# Altium integrated library Motorola Microcontroller 8-Bit.IntLib: 909 symbols (part 23 of 31)
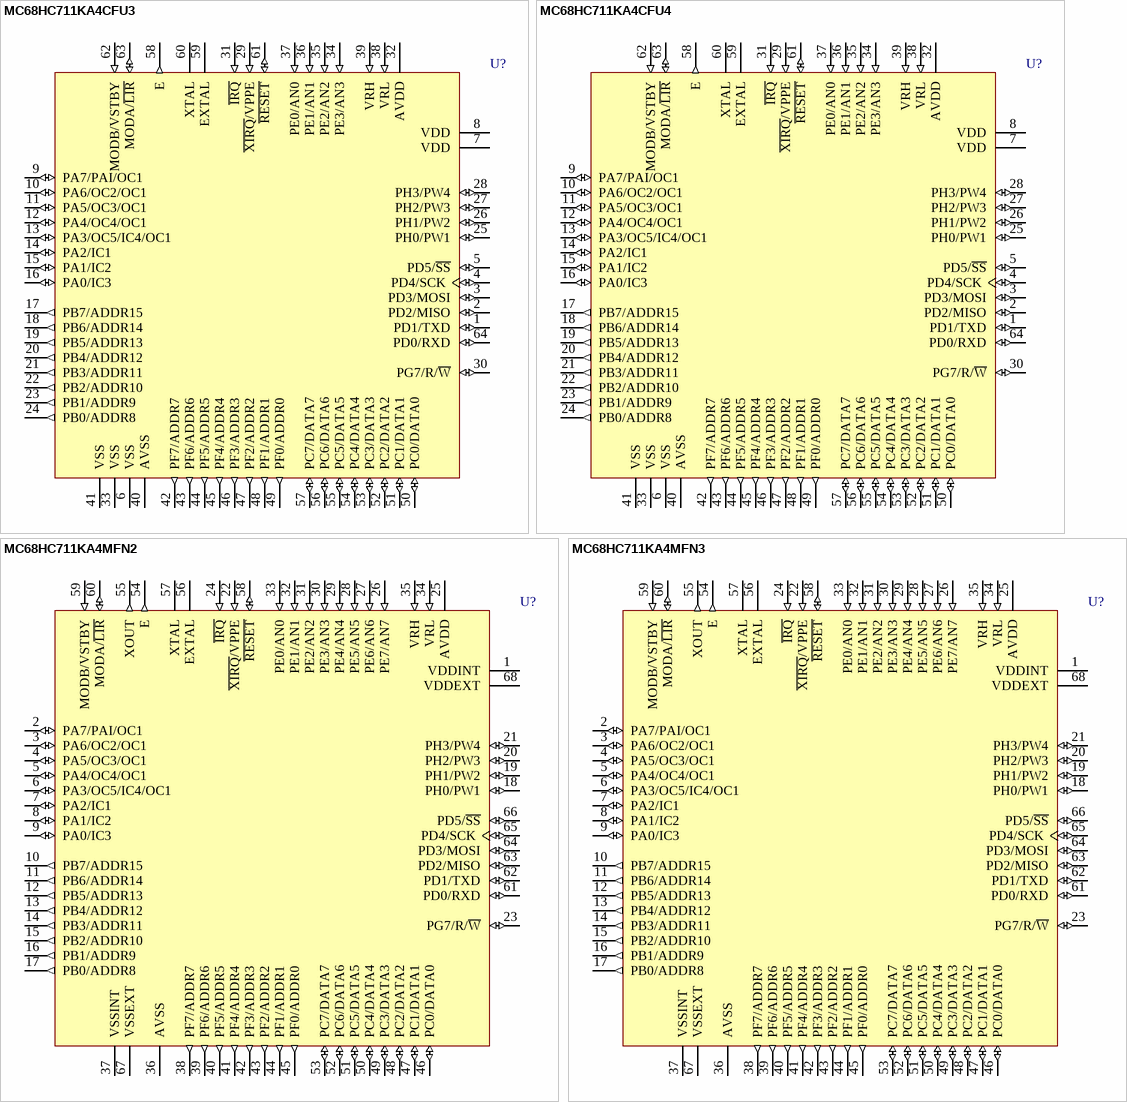
[diagram p135: symbols MC68HC711KA4CFU3 to MC68HC711KA4MFN3]

## MC68HC711KA4CFU4
designator U?
8-Bit Microcontroller; Published: 17-Jan-2003; LatestRevisionDate: 13-Apr-2006; LatestRevisionNote: IPC-7351 Footprint Added.; DatasheetVersion: 1996; PackageVersion: rev4, Jul-2002; PackageReference: 840C; Publisher: Altium Limited; PackageDescription: 64-Pin Quad Flat Pack 0.8 mm Pitch; ComponentLink1Description: Manufacturer Link; ComponentLink1URL: http://www.freescale.com/
footprint 840C_N (QFP, 64-Leads, Body 14x14mm, Pitch 0.8mm, IPC Medium Density)
footprint 840C_L (QFP, 64-Leads, Body 14x14mm, Pitch 0.8mm, IPC High Density)
footprint 840C_M (QFP, 64-Leads, Body 14x14mm, Pitch 0.8mm, IPC Low Density)
3D model MC68HC711-840C (64-Pin Quad Flat Pack 0.8 mm Pitch)
pins: 1 PD1/TXD (io), 2 PD2/MISO (io), 3 PD3/MOSI (io), 4 PD4/SCK (io), 5 PD5/~{SS} (io), 6 VSS (power), 7 VDD (power), 8 VDD (power), 9 PA7/PAI/OC1 (io), 10 PA6/OC2/OC1 (io), 11 PA5/OC3/OC1 (io), 12 PA4/OC4/OC1 (io), 13 PA3/OC5/IC4/OC1 (io), 14 PA2/IC1 (io), 15 PA1/IC2 (io), 16 PA0/IC3 (io), 17 PB7/ADDR15 (out), 18 PB6/ADDR14 (out), 19 PB5/ADDR13 (out), 20 PB4/ADDR12 (out), 21 PB3/ADDR11 (out), 22 PB2/ADDR10 (out), 23 PB1/ADDR9 (out), 24 PB0/ADDR8 (out), 25 PH0/PW1 (io), 26 PH1/PW2 (io), 27 PH2/PW3 (io), 28 PH3/PW4 (io), 29 ~{XIRQ}/VPPE (in), 30 PG7/R/~{W} (io), 31 ~{IRQ} (in), 32 AVDD (power), 33 VSS (power), 34 PE3/AN3 (in), 35 PE2/AN2 (in), 36 PE1/AN1 (in), 37 PE0/AN0 (in), 38 VRL (in), 39 VRH (in), 40 AVSS (power), 41 VSS (power), 42 PF7/ADDR7 (out), 43 PF6/ADDR6 (out), 44 PF5/ADDR5 (out), 45 PF4/ADDR4 (out), 46 PF3/ADDR3 (out), 47 PF2/ADDR2 (out), 48 PF1/ADDR1 (out), 49 PF0/ADDR0 (out), 50 PC0/DATA0 (io), 51 PC1/DATA1 (io), 52 PC2/DATA2 (io), 53 PC3/DATA3 (io), 54 PC4/DATA4 (io), 55 PC5/DATA5 (io), 56 PC6/DATA6 (io), 57 PC7/DATA7 (io), 58 E (out), 59 EXTAL, 60 XTAL, 61 ~{RESET} (io), 62 MODB/VSTBY (in), 63 MODA/~{LIR} (io), 64 PD0/RXD (io)

## MC68HC711KA4MFN2
designator U?
8-Bit Microcontroller; Published: 17-Jan-2003; LatestRevisionDate: 13-Apr-2006; LatestRevisionNote: IPC-7351 Footprint Added.; DatasheetVersion: 1996; PackageVersion: 2001; PackageReference: 779-02; Publisher: Altium Limited; PackageDescription: 68-Pin Leaded Chip Carrier 1.27 mm Pitch; ComponentLink1Description: Manufacturer Link; ComponentLink1URL: http://www.freescale.com/
footprint 779-02_N (Leaded Chip Carrier, 68-Leads, Body 24.2x24.2mm, Pitch 1.27mm, IPC Medium Density)
footprint 779-02_L (Leaded Chip Carrier, 68-Leads, Body 24.2x24.2mm, Pitch 1.27mm, IPC High Density)
footprint 779-02_M (Leaded Chip Carrier, 68-Leads, Body 24.2x24.2mm, Pitch 1.27mm, IPC Low Density)
3D model MC68HC711-779-02 (68-Pin Leaded Chip Carrier 1.27 mm Pitch)
pins: 1 VDDINT (power), 2 PA7/PAI/OC1 (io), 3 PA6/OC2/OC1 (io), 4 PA5/OC3/OC1 (io), 5 PA4/OC4/OC1 (io), 6 PA3/OC5/IC4/OC1 (io), 7 PA2/IC1 (io), 8 PA1/IC2 (io), 9 PA0/IC3 (io), 10 PB7/ADDR15 (out), 11 PB6/ADDR14 (out), 12 PB5/ADDR13 (out), 13 PB4/ADDR12 (out), 14 PB3/ADDR11 (out), 15 PB2/ADDR10 (out), 16 PB1/ADDR9 (out), 17 PB0/ADDR8 (out), 18 PH0/PW1 (io), 19 PH1/PW2 (io), 20 PH2/PW3 (io), 21 PH3/PW4 (io), 22 ~{XIRQ}/VPPE (in), 23 PG7/R/~{W} (io), 24 ~{IRQ} (in), 25 AVDD (power), 26 PE7/AN7 (in), 27 PE6/AN6 (in), 28 PE5/AN5 (in), 29 PE4/AN4 (in), 30 PE3/AN3 (in), 31 PE2/AN2 (in), 32 PE1/AN1 (in), 33 PE0/AN0 (in), 34 VRL (in), 35 VRH (in), 36 AVSS (power), 37 VSSINT (power), 38 PF7/ADDR7 (out), 39 PF6/ADDR6 (out), 40 PF5/ADDR5 (out), 41 PF4/ADDR4 (out), 42 PF3/ADDR3 (out), 43 PF2/ADDR2 (out), 44 PF1/ADDR1 (out), 45 PF0/ADDR0 (out), 46 PC0/DATA0 (io), 47 PC1/DATA1 (io), 48 PC2/DATA2 (io), 49 PC3/DATA3 (io), 50 PC4/DATA4 (io), 51 PC5/DATA5 (io), 52 PC6/DATA6 (io), 53 PC7/DATA7 (io), 54 E (out), 55 XOUT (out), 56 EXTAL, 57 XTAL, 58 ~{RESET} (io), 59 MODB/VSTBY (in), 60 MODA/~{LIR} (io), 61 PD0/RXD (io), 62 PD1/TXD (io), 63 PD2/MISO (io), 64 PD3/MOSI (io), 65 PD4/SCK (io), 66 PD5/~{SS} (io), 67 VSSEXT (power), 68 VDDEXT (power)

## MC68HC711KA4MFN3
designator U?
8-Bit Microcontroller; Published: 17-Jan-2003; LatestRevisionDate: 13-Apr-2006; LatestRevisionNote: IPC-7351 Footprint Added.; DatasheetVersion: 1996; PackageVersion: 2001; PackageReference: 779-02; Publisher: Altium Limited; PackageDescription: 68-Pin Leaded Chip Carrier 1.27 mm Pitch; ComponentLink1Description: Manufacturer Link; ComponentLink1URL: http://www.freescale.com/
footprint 779-02_N (Leaded Chip Carrier, 68-Leads, Body 24.2x24.2mm, Pitch 1.27mm, IPC Medium Density)
footprint 779-02_L (Leaded Chip Carrier, 68-Leads, Body 24.2x24.2mm, Pitch 1.27mm, IPC High Density)
footprint 779-02_M (Leaded Chip Carrier, 68-Leads, Body 24.2x24.2mm, Pitch 1.27mm, IPC Low Density)
3D model MC68HC711-779-02 (68-Pin Leaded Chip Carrier 1.27 mm Pitch)
pins: 1 VDDINT (power), 2 PA7/PAI/OC1 (io), 3 PA6/OC2/OC1 (io), 4 PA5/OC3/OC1 (io), 5 PA4/OC4/OC1 (io), 6 PA3/OC5/IC4/OC1 (io), 7 PA2/IC1 (io), 8 PA1/IC2 (io), 9 PA0/IC3 (io), 10 PB7/ADDR15 (out), 11 PB6/ADDR14 (out), 12 PB5/ADDR13 (out), 13 PB4/ADDR12 (out), 14 PB3/ADDR11 (out), 15 PB2/ADDR10 (out), 16 PB1/ADDR9 (out), 17 PB0/ADDR8 (out), 18 PH0/PW1 (io), 19 PH1/PW2 (io), 20 PH2/PW3 (io), 21 PH3/PW4 (io), 22 ~{XIRQ}/VPPE (in), 23 PG7/R/~{W} (io), 24 ~{IRQ} (in), 25 AVDD (power), 26 PE7/AN7 (in), 27 PE6/AN6 (in), 28 PE5/AN5 (in), 29 PE4/AN4 (in), 30 PE3/AN3 (in), 31 PE2/AN2 (in), 32 PE1/AN1 (in), 33 PE0/AN0 (in), 34 VRL (in), 35 VRH (in), 36 AVSS (power), 37 VSSINT (power), 38 PF7/ADDR7 (out), 39 PF6/ADDR6 (out), 40 PF5/ADDR5 (out), 41 PF4/ADDR4 (out), 42 PF3/ADDR3 (out), 43 PF2/ADDR2 (out), 44 PF1/ADDR1 (out), 45 PF0/ADDR0 (out), 46 PC0/DATA0 (io), 47 PC1/DATA1 (io), 48 PC2/DATA2 (io), 49 PC3/DATA3 (io), 50 PC4/DATA4 (io), 51 PC5/DATA5 (io), 52 PC6/DATA6 (io), 53 PC7/DATA7 (io), 54 E (out), 55 XOUT (out), 56 EXTAL, 57 XTAL, 58 ~{RESET} (io), 59 MODB/VSTBY (in), 60 MODA/~{LIR} (io), 61 PD0/RXD (io), 62 PD1/TXD (io), 63 PD2/MISO (io), 64 PD3/MOSI (io), 65 PD4/SCK (io), 66 PD5/~{SS} (io), 67 VSSEXT (power), 68 VDDEXT (power)

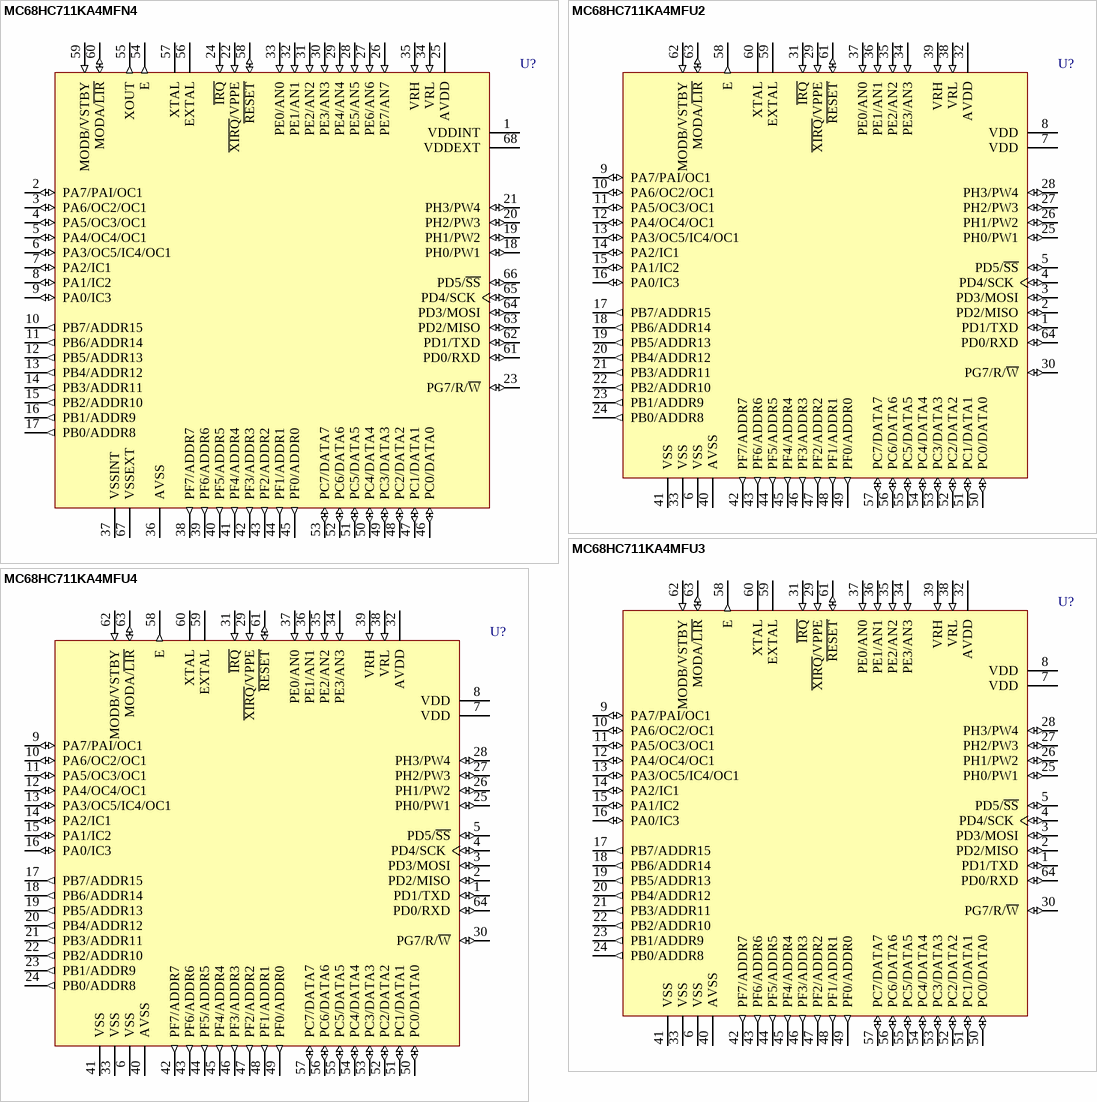
[diagram p86: symbols MC68HC711KA4MFN4 to MC68HC711KA4MFU4]

## MC68HC711KA4MFN4
designator U?
8-Bit Microcontroller; Published: 17-Jan-2003; LatestRevisionDate: 13-Apr-2006; LatestRevisionNote: IPC-7351 Footprint Added.; DatasheetVersion: 1996; PackageVersion: 2001; PackageReference: 779-02; Publisher: Altium Limited; PackageDescription: 68-Pin Leaded Chip Carrier 1.27 mm Pitch; ComponentLink1Description: Manufacturer Link; ComponentLink1URL: http://www.freescale.com/
footprint 779-02_N (Leaded Chip Carrier, 68-Leads, Body 24.2x24.2mm, Pitch 1.27mm, IPC Medium Density)
footprint 779-02_L (Leaded Chip Carrier, 68-Leads, Body 24.2x24.2mm, Pitch 1.27mm, IPC High Density)
footprint 779-02_M (Leaded Chip Carrier, 68-Leads, Body 24.2x24.2mm, Pitch 1.27mm, IPC Low Density)
3D model MC68HC711-779-02 (68-Pin Leaded Chip Carrier 1.27 mm Pitch)
pins: 1 VDDINT (power), 2 PA7/PAI/OC1 (io), 3 PA6/OC2/OC1 (io), 4 PA5/OC3/OC1 (io), 5 PA4/OC4/OC1 (io), 6 PA3/OC5/IC4/OC1 (io), 7 PA2/IC1 (io), 8 PA1/IC2 (io), 9 PA0/IC3 (io), 10 PB7/ADDR15 (out), 11 PB6/ADDR14 (out), 12 PB5/ADDR13 (out), 13 PB4/ADDR12 (out), 14 PB3/ADDR11 (out), 15 PB2/ADDR10 (out), 16 PB1/ADDR9 (out), 17 PB0/ADDR8 (out), 18 PH0/PW1 (io), 19 PH1/PW2 (io), 20 PH2/PW3 (io), 21 PH3/PW4 (io), 22 ~{XIRQ}/VPPE (in), 23 PG7/R/~{W} (io), 24 ~{IRQ} (in), 25 AVDD (power), 26 PE7/AN7 (in), 27 PE6/AN6 (in), 28 PE5/AN5 (in), 29 PE4/AN4 (in), 30 PE3/AN3 (in), 31 PE2/AN2 (in), 32 PE1/AN1 (in), 33 PE0/AN0 (in), 34 VRL (in), 35 VRH (in), 36 AVSS (power), 37 VSSINT (power), 38 PF7/ADDR7 (out), 39 PF6/ADDR6 (out), 40 PF5/ADDR5 (out), 41 PF4/ADDR4 (out), 42 PF3/ADDR3 (out), 43 PF2/ADDR2 (out), 44 PF1/ADDR1 (out), 45 PF0/ADDR0 (out), 46 PC0/DATA0 (io), 47 PC1/DATA1 (io), 48 PC2/DATA2 (io), 49 PC3/DATA3 (io), 50 PC4/DATA4 (io), 51 PC5/DATA5 (io), 52 PC6/DATA6 (io), 53 PC7/DATA7 (io), 54 E (out), 55 XOUT (out), 56 EXTAL, 57 XTAL, 58 ~{RESET} (io), 59 MODB/VSTBY (in), 60 MODA/~{LIR} (io), 61 PD0/RXD (io), 62 PD1/TXD (io), 63 PD2/MISO (io), 64 PD3/MOSI (io), 65 PD4/SCK (io), 66 PD5/~{SS} (io), 67 VSSEXT (power), 68 VDDEXT (power)

## MC68HC711KA4MFU2
designator U?
8-Bit Microcontroller; Published: 17-Jan-2003; LatestRevisionDate: 13-Apr-2006; LatestRevisionNote: IPC-7351 Footprint Added.; DatasheetVersion: 1996; PackageVersion: rev4, Jul-2002; PackageReference: 840C; Publisher: Altium Limited; PackageDescription: 64-Pin Quad Flat Pack 0.8 mm Pitch; ComponentLink1Description: Manufacturer Link; ComponentLink1URL: http://www.freescale.com/
footprint 840C_N (QFP, 64-Leads, Body 14x14mm, Pitch 0.8mm, IPC Medium Density)
footprint 840C_L (QFP, 64-Leads, Body 14x14mm, Pitch 0.8mm, IPC High Density)
footprint 840C_M (QFP, 64-Leads, Body 14x14mm, Pitch 0.8mm, IPC Low Density)
3D model MC68HC711-840C (64-Pin Quad Flat Pack 0.8 mm Pitch)
pins: 1 PD1/TXD (io), 2 PD2/MISO (io), 3 PD3/MOSI (io), 4 PD4/SCK (io), 5 PD5/~{SS} (io), 6 VSS (power), 7 VDD (power), 8 VDD (power), 9 PA7/PAI/OC1 (io), 10 PA6/OC2/OC1 (io), 11 PA5/OC3/OC1 (io), 12 PA4/OC4/OC1 (io), 13 PA3/OC5/IC4/OC1 (io), 14 PA2/IC1 (io), 15 PA1/IC2 (io), 16 PA0/IC3 (io), 17 PB7/ADDR15 (out), 18 PB6/ADDR14 (out), 19 PB5/ADDR13 (out), 20 PB4/ADDR12 (out), 21 PB3/ADDR11 (out), 22 PB2/ADDR10 (out), 23 PB1/ADDR9 (out), 24 PB0/ADDR8 (out), 25 PH0/PW1 (io), 26 PH1/PW2 (io), 27 PH2/PW3 (io), 28 PH3/PW4 (io), 29 ~{XIRQ}/VPPE (in), 30 PG7/R/~{W} (io), 31 ~{IRQ} (in), 32 AVDD (power), 33 VSS (power), 34 PE3/AN3 (in), 35 PE2/AN2 (in), 36 PE1/AN1 (in), 37 PE0/AN0 (in), 38 VRL (in), 39 VRH (in), 40 AVSS (power), 41 VSS (power), 42 PF7/ADDR7 (out), 43 PF6/ADDR6 (out), 44 PF5/ADDR5 (out), 45 PF4/ADDR4 (out), 46 PF3/ADDR3 (out), 47 PF2/ADDR2 (out), 48 PF1/ADDR1 (out), 49 PF0/ADDR0 (out), 50 PC0/DATA0 (io), 51 PC1/DATA1 (io), 52 PC2/DATA2 (io), 53 PC3/DATA3 (io), 54 PC4/DATA4 (io), 55 PC5/DATA5 (io), 56 PC6/DATA6 (io), 57 PC7/DATA7 (io), 58 E (out), 59 EXTAL, 60 XTAL, 61 ~{RESET} (io), 62 MODB/VSTBY (in), 63 MODA/~{LIR} (io), 64 PD0/RXD (io)

## MC68HC711KA4MFU3
designator U?
8-Bit Microcontroller; Published: 17-Jan-2003; LatestRevisionDate: 13-Apr-2006; LatestRevisionNote: IPC-7351 Footprint Added.; DatasheetVersion: 1996; PackageVersion: rev4, Jul-2002; PackageReference: 840C; Publisher: Altium Limited; PackageDescription: 64-Pin Quad Flat Pack 0.8 mm Pitch; ComponentLink1Description: Manufacturer Link; ComponentLink1URL: http://www.freescale.com/
footprint 840C_N (QFP, 64-Leads, Body 14x14mm, Pitch 0.8mm, IPC Medium Density)
footprint 840C_L (QFP, 64-Leads, Body 14x14mm, Pitch 0.8mm, IPC High Density)
footprint 840C_M (QFP, 64-Leads, Body 14x14mm, Pitch 0.8mm, IPC Low Density)
3D model MC68HC711-840C (64-Pin Quad Flat Pack 0.8 mm Pitch)
pins: 1 PD1/TXD (io), 2 PD2/MISO (io), 3 PD3/MOSI (io), 4 PD4/SCK (io), 5 PD5/~{SS} (io), 6 VSS (power), 7 VDD (power), 8 VDD (power), 9 PA7/PAI/OC1 (io), 10 PA6/OC2/OC1 (io), 11 PA5/OC3/OC1 (io), 12 PA4/OC4/OC1 (io), 13 PA3/OC5/IC4/OC1 (io), 14 PA2/IC1 (io), 15 PA1/IC2 (io), 16 PA0/IC3 (io), 17 PB7/ADDR15 (out), 18 PB6/ADDR14 (out), 19 PB5/ADDR13 (out), 20 PB4/ADDR12 (out), 21 PB3/ADDR11 (out), 22 PB2/ADDR10 (out), 23 PB1/ADDR9 (out), 24 PB0/ADDR8 (out), 25 PH0/PW1 (io), 26 PH1/PW2 (io), 27 PH2/PW3 (io), 28 PH3/PW4 (io), 29 ~{XIRQ}/VPPE (in), 30 PG7/R/~{W} (io), 31 ~{IRQ} (in), 32 AVDD (power), 33 VSS (power), 34 PE3/AN3 (in), 35 PE2/AN2 (in), 36 PE1/AN1 (in), 37 PE0/AN0 (in), 38 VRL (in), 39 VRH (in), 40 AVSS (power), 41 VSS (power), 42 PF7/ADDR7 (out), 43 PF6/ADDR6 (out), 44 PF5/ADDR5 (out), 45 PF4/ADDR4 (out), 46 PF3/ADDR3 (out), 47 PF2/ADDR2 (out), 48 PF1/ADDR1 (out), 49 PF0/ADDR0 (out), 50 PC0/DATA0 (io), 51 PC1/DATA1 (io), 52 PC2/DATA2 (io), 53 PC3/DATA3 (io), 54 PC4/DATA4 (io), 55 PC5/DATA5 (io), 56 PC6/DATA6 (io), 57 PC7/DATA7 (io), 58 E (out), 59 EXTAL, 60 XTAL, 61 ~{RESET} (io), 62 MODB/VSTBY (in), 63 MODA/~{LIR} (io), 64 PD0/RXD (io)

## MC68HC711KA4MFU4
designator U?
8-Bit Microcontroller; Published: 17-Jan-2003; LatestRevisionDate: 13-Apr-2006; LatestRevisionNote: IPC-7351 Footprint Added.; DatasheetVersion: 1996; PackageVersion: rev4, Jul-2002; PackageReference: 840C; Publisher: Altium Limited; PackageDescription: 64-Pin Quad Flat Pack 0.8 mm Pitch; ComponentLink1Description: Manufacturer Link; ComponentLink1URL: http://www.freescale.com/
footprint 840C_N (QFP, 64-Leads, Body 14x14mm, Pitch 0.8mm, IPC Medium Density)
footprint 840C_L (QFP, 64-Leads, Body 14x14mm, Pitch 0.8mm, IPC High Density)
footprint 840C_M (QFP, 64-Leads, Body 14x14mm, Pitch 0.8mm, IPC Low Density)
3D model MC68HC711-840C (64-Pin Quad Flat Pack 0.8 mm Pitch)
pins: 1 PD1/TXD (io), 2 PD2/MISO (io), 3 PD3/MOSI (io), 4 PD4/SCK (io), 5 PD5/~{SS} (io), 6 VSS (power), 7 VDD (power), 8 VDD (power), 9 PA7/PAI/OC1 (io), 10 PA6/OC2/OC1 (io), 11 PA5/OC3/OC1 (io), 12 PA4/OC4/OC1 (io), 13 PA3/OC5/IC4/OC1 (io), 14 PA2/IC1 (io), 15 PA1/IC2 (io), 16 PA0/IC3 (io), 17 PB7/ADDR15 (out), 18 PB6/ADDR14 (out), 19 PB5/ADDR13 (out), 20 PB4/ADDR12 (out), 21 PB3/ADDR11 (out), 22 PB2/ADDR10 (out), 23 PB1/ADDR9 (out), 24 PB0/ADDR8 (out), 25 PH0/PW1 (io), 26 PH1/PW2 (io), 27 PH2/PW3 (io), 28 PH3/PW4 (io), 29 ~{XIRQ}/VPPE (in), 30 PG7/R/~{W} (io), 31 ~{IRQ} (in), 32 AVDD (power), 33 VSS (power), 34 PE3/AN3 (in), 35 PE2/AN2 (in), 36 PE1/AN1 (in), 37 PE0/AN0 (in), 38 VRL (in), 39 VRH (in), 40 AVSS (power), 41 VSS (power), 42 PF7/ADDR7 (out), 43 PF6/ADDR6 (out), 44 PF5/ADDR5 (out), 45 PF4/ADDR4 (out), 46 PF3/ADDR3 (out), 47 PF2/ADDR2 (out), 48 PF1/ADDR1 (out), 49 PF0/ADDR0 (out), 50 PC0/DATA0 (io), 51 PC1/DATA1 (io), 52 PC2/DATA2 (io), 53 PC3/DATA3 (io), 54 PC4/DATA4 (io), 55 PC5/DATA5 (io), 56 PC6/DATA6 (io), 57 PC7/DATA7 (io), 58 E (out), 59 EXTAL, 60 XTAL, 61 ~{RESET} (io), 62 MODB/VSTBY (in), 63 MODA/~{LIR} (io), 64 PD0/RXD (io)

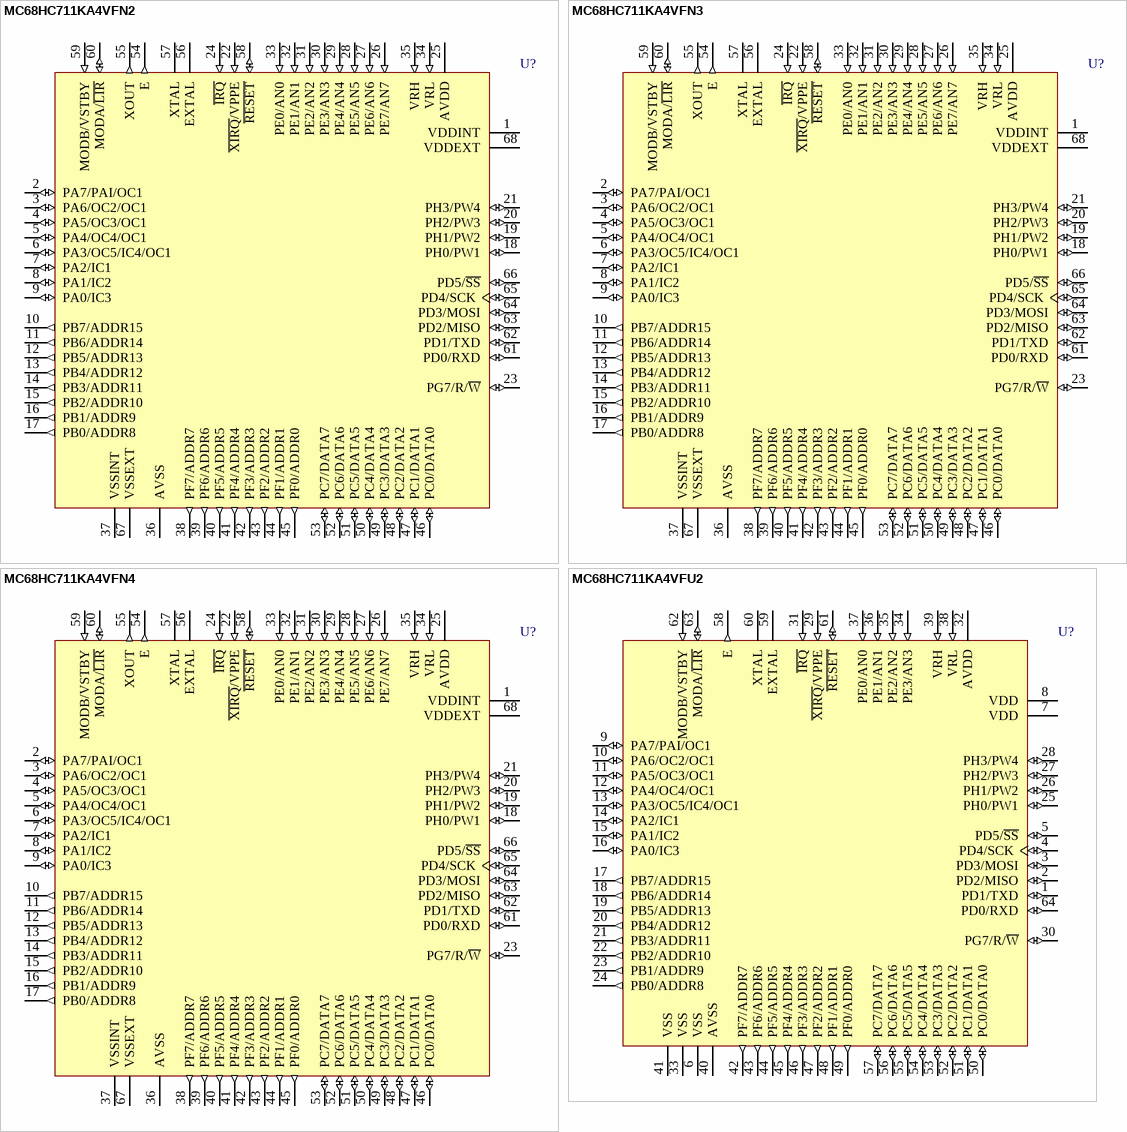
[diagram p87: symbols MC68HC711KA4VFN2 to MC68HC711KA4VFU2]

## MC68HC711KA4VFN2
designator U?
8-Bit Microcontroller; Published: 17-Jan-2003; LatestRevisionDate: 13-Apr-2006; LatestRevisionNote: IPC-7351 Footprint Added.; DatasheetVersion: 1996; PackageVersion: 2001; PackageReference: 779-02; Publisher: Altium Limited; PackageDescription: 68-Pin Leaded Chip Carrier 1.27 mm Pitch; ComponentLink1Description: Manufacturer Link; ComponentLink1URL: http://www.freescale.com/
footprint 779-02_N (Leaded Chip Carrier, 68-Leads, Body 24.2x24.2mm, Pitch 1.27mm, IPC Medium Density)
footprint 779-02_L (Leaded Chip Carrier, 68-Leads, Body 24.2x24.2mm, Pitch 1.27mm, IPC High Density)
footprint 779-02_M (Leaded Chip Carrier, 68-Leads, Body 24.2x24.2mm, Pitch 1.27mm, IPC Low Density)
3D model MC68HC711-779-02 (68-Pin Leaded Chip Carrier 1.27 mm Pitch)
pins: 1 VDDINT (power), 2 PA7/PAI/OC1 (io), 3 PA6/OC2/OC1 (io), 4 PA5/OC3/OC1 (io), 5 PA4/OC4/OC1 (io), 6 PA3/OC5/IC4/OC1 (io), 7 PA2/IC1 (io), 8 PA1/IC2 (io), 9 PA0/IC3 (io), 10 PB7/ADDR15 (out), 11 PB6/ADDR14 (out), 12 PB5/ADDR13 (out), 13 PB4/ADDR12 (out), 14 PB3/ADDR11 (out), 15 PB2/ADDR10 (out), 16 PB1/ADDR9 (out), 17 PB0/ADDR8 (out), 18 PH0/PW1 (io), 19 PH1/PW2 (io), 20 PH2/PW3 (io), 21 PH3/PW4 (io), 22 ~{XIRQ}/VPPE (in), 23 PG7/R/~{W} (io), 24 ~{IRQ} (in), 25 AVDD (power), 26 PE7/AN7 (in), 27 PE6/AN6 (in), 28 PE5/AN5 (in), 29 PE4/AN4 (in), 30 PE3/AN3 (in), 31 PE2/AN2 (in), 32 PE1/AN1 (in), 33 PE0/AN0 (in), 34 VRL (in), 35 VRH (in), 36 AVSS (power), 37 VSSINT (power), 38 PF7/ADDR7 (out), 39 PF6/ADDR6 (out), 40 PF5/ADDR5 (out), 41 PF4/ADDR4 (out), 42 PF3/ADDR3 (out), 43 PF2/ADDR2 (out), 44 PF1/ADDR1 (out), 45 PF0/ADDR0 (out), 46 PC0/DATA0 (io), 47 PC1/DATA1 (io), 48 PC2/DATA2 (io), 49 PC3/DATA3 (io), 50 PC4/DATA4 (io), 51 PC5/DATA5 (io), 52 PC6/DATA6 (io), 53 PC7/DATA7 (io), 54 E (out), 55 XOUT (out), 56 EXTAL, 57 XTAL, 58 ~{RESET} (io), 59 MODB/VSTBY (in), 60 MODA/~{LIR} (io), 61 PD0/RXD (io), 62 PD1/TXD (io), 63 PD2/MISO (io), 64 PD3/MOSI (io), 65 PD4/SCK (io), 66 PD5/~{SS} (io), 67 VSSEXT (power), 68 VDDEXT (power)

## MC68HC711KA4VFN3
designator U?
8-Bit Microcontroller; Published: 17-Jan-2003; LatestRevisionDate: 13-Apr-2006; LatestRevisionNote: IPC-7351 Footprint Added.; DatasheetVersion: 1996; PackageVersion: 2001; PackageReference: 779-02; Publisher: Altium Limited; PackageDescription: 68-Pin Leaded Chip Carrier 1.27 mm Pitch; ComponentLink1Description: Manufacturer Link; ComponentLink1URL: http://www.freescale.com/
footprint 779-02_N (Leaded Chip Carrier, 68-Leads, Body 24.2x24.2mm, Pitch 1.27mm, IPC Medium Density)
footprint 779-02_L (Leaded Chip Carrier, 68-Leads, Body 24.2x24.2mm, Pitch 1.27mm, IPC High Density)
footprint 779-02_M (Leaded Chip Carrier, 68-Leads, Body 24.2x24.2mm, Pitch 1.27mm, IPC Low Density)
3D model MC68HC711-779-02 (68-Pin Leaded Chip Carrier 1.27 mm Pitch)
pins: 1 VDDINT (power), 2 PA7/PAI/OC1 (io), 3 PA6/OC2/OC1 (io), 4 PA5/OC3/OC1 (io), 5 PA4/OC4/OC1 (io), 6 PA3/OC5/IC4/OC1 (io), 7 PA2/IC1 (io), 8 PA1/IC2 (io), 9 PA0/IC3 (io), 10 PB7/ADDR15 (out), 11 PB6/ADDR14 (out), 12 PB5/ADDR13 (out), 13 PB4/ADDR12 (out), 14 PB3/ADDR11 (out), 15 PB2/ADDR10 (out), 16 PB1/ADDR9 (out), 17 PB0/ADDR8 (out), 18 PH0/PW1 (io), 19 PH1/PW2 (io), 20 PH2/PW3 (io), 21 PH3/PW4 (io), 22 ~{XIRQ}/VPPE (in), 23 PG7/R/~{W} (io), 24 ~{IRQ} (in), 25 AVDD (power), 26 PE7/AN7 (in), 27 PE6/AN6 (in), 28 PE5/AN5 (in), 29 PE4/AN4 (in), 30 PE3/AN3 (in), 31 PE2/AN2 (in), 32 PE1/AN1 (in), 33 PE0/AN0 (in), 34 VRL (in), 35 VRH (in), 36 AVSS (power), 37 VSSINT (power), 38 PF7/ADDR7 (out), 39 PF6/ADDR6 (out), 40 PF5/ADDR5 (out), 41 PF4/ADDR4 (out), 42 PF3/ADDR3 (out), 43 PF2/ADDR2 (out), 44 PF1/ADDR1 (out), 45 PF0/ADDR0 (out), 46 PC0/DATA0 (io), 47 PC1/DATA1 (io), 48 PC2/DATA2 (io), 49 PC3/DATA3 (io), 50 PC4/DATA4 (io), 51 PC5/DATA5 (io), 52 PC6/DATA6 (io), 53 PC7/DATA7 (io), 54 E (out), 55 XOUT (out), 56 EXTAL, 57 XTAL, 58 ~{RESET} (io), 59 MODB/VSTBY (in), 60 MODA/~{LIR} (io), 61 PD0/RXD (io), 62 PD1/TXD (io), 63 PD2/MISO (io), 64 PD3/MOSI (io), 65 PD4/SCK (io), 66 PD5/~{SS} (io), 67 VSSEXT (power), 68 VDDEXT (power)

## MC68HC711KA4VFN4
designator U?
8-Bit Microcontroller; Published: 17-Jan-2003; LatestRevisionDate: 13-Apr-2006; LatestRevisionNote: IPC-7351 Footprint Added.; DatasheetVersion: 1996; PackageVersion: 2001; PackageReference: 779-02; Publisher: Altium Limited; PackageDescription: 68-Pin Leaded Chip Carrier 1.27 mm Pitch; ComponentLink1Description: Manufacturer Link; ComponentLink1URL: http://www.freescale.com/
footprint 779-02_N (Leaded Chip Carrier, 68-Leads, Body 24.2x24.2mm, Pitch 1.27mm, IPC Medium Density)
footprint 779-02_L (Leaded Chip Carrier, 68-Leads, Body 24.2x24.2mm, Pitch 1.27mm, IPC High Density)
footprint 779-02_M (Leaded Chip Carrier, 68-Leads, Body 24.2x24.2mm, Pitch 1.27mm, IPC Low Density)
3D model MC68HC711-779-02 (68-Pin Leaded Chip Carrier 1.27 mm Pitch)
pins: 1 VDDINT (power), 2 PA7/PAI/OC1 (io), 3 PA6/OC2/OC1 (io), 4 PA5/OC3/OC1 (io), 5 PA4/OC4/OC1 (io), 6 PA3/OC5/IC4/OC1 (io), 7 PA2/IC1 (io), 8 PA1/IC2 (io), 9 PA0/IC3 (io), 10 PB7/ADDR15 (out), 11 PB6/ADDR14 (out), 12 PB5/ADDR13 (out), 13 PB4/ADDR12 (out), 14 PB3/ADDR11 (out), 15 PB2/ADDR10 (out), 16 PB1/ADDR9 (out), 17 PB0/ADDR8 (out), 18 PH0/PW1 (io), 19 PH1/PW2 (io), 20 PH2/PW3 (io), 21 PH3/PW4 (io), 22 ~{XIRQ}/VPPE (in), 23 PG7/R/~{W} (io), 24 ~{IRQ} (in), 25 AVDD (power), 26 PE7/AN7 (in), 27 PE6/AN6 (in), 28 PE5/AN5 (in), 29 PE4/AN4 (in), 30 PE3/AN3 (in), 31 PE2/AN2 (in), 32 PE1/AN1 (in), 33 PE0/AN0 (in), 34 VRL (in), 35 VRH (in), 36 AVSS (power), 37 VSSINT (power), 38 PF7/ADDR7 (out), 39 PF6/ADDR6 (out), 40 PF5/ADDR5 (out), 41 PF4/ADDR4 (out), 42 PF3/ADDR3 (out), 43 PF2/ADDR2 (out), 44 PF1/ADDR1 (out), 45 PF0/ADDR0 (out), 46 PC0/DATA0 (io), 47 PC1/DATA1 (io), 48 PC2/DATA2 (io), 49 PC3/DATA3 (io), 50 PC4/DATA4 (io), 51 PC5/DATA5 (io), 52 PC6/DATA6 (io), 53 PC7/DATA7 (io), 54 E (out), 55 XOUT (out), 56 EXTAL, 57 XTAL, 58 ~{RESET} (io), 59 MODB/VSTBY (in), 60 MODA/~{LIR} (io), 61 PD0/RXD (io), 62 PD1/TXD (io), 63 PD2/MISO (io), 64 PD3/MOSI (io), 65 PD4/SCK (io), 66 PD5/~{SS} (io), 67 VSSEXT (power), 68 VDDEXT (power)

## MC68HC711KA4VFU2
designator U?
8-Bit Microcontroller; Published: 17-Jan-2003; LatestRevisionDate: 13-Apr-2006; LatestRevisionNote: IPC-7351 Footprint Added.; DatasheetVersion: 1996; PackageVersion: rev4, Jul-2002; PackageReference: 840C; Publisher: Altium Limited; PackageDescription: 64-Pin Quad Flat Pack 0.8 mm Pitch; ComponentLink1Description: Manufacturer Link; ComponentLink1URL: http://www.freescale.com/
footprint 840C_N (QFP, 64-Leads, Body 14x14mm, Pitch 0.8mm, IPC Medium Density)
footprint 840C_L (QFP, 64-Leads, Body 14x14mm, Pitch 0.8mm, IPC High Density)
footprint 840C_M (QFP, 64-Leads, Body 14x14mm, Pitch 0.8mm, IPC Low Density)
3D model MC68HC711-840C (64-Pin Quad Flat Pack 0.8 mm Pitch)
pins: 1 PD1/TXD (io), 2 PD2/MISO (io), 3 PD3/MOSI (io), 4 PD4/SCK (io), 5 PD5/~{SS} (io), 6 VSS (power), 7 VDD (power), 8 VDD (power), 9 PA7/PAI/OC1 (io), 10 PA6/OC2/OC1 (io), 11 PA5/OC3/OC1 (io), 12 PA4/OC4/OC1 (io), 13 PA3/OC5/IC4/OC1 (io), 14 PA2/IC1 (io), 15 PA1/IC2 (io), 16 PA0/IC3 (io), 17 PB7/ADDR15 (out), 18 PB6/ADDR14 (out), 19 PB5/ADDR13 (out), 20 PB4/ADDR12 (out), 21 PB3/ADDR11 (out), 22 PB2/ADDR10 (out), 23 PB1/ADDR9 (out), 24 PB0/ADDR8 (out), 25 PH0/PW1 (io), 26 PH1/PW2 (io), 27 PH2/PW3 (io), 28 PH3/PW4 (io), 29 ~{XIRQ}/VPPE (in), 30 PG7/R/~{W} (io), 31 ~{IRQ} (in), 32 AVDD (power), 33 VSS (power), 34 PE3/AN3 (in), 35 PE2/AN2 (in), 36 PE1/AN1 (in), 37 PE0/AN0 (in), 38 VRL (in), 39 VRH (in), 40 AVSS (power), 41 VSS (power), 42 PF7/ADDR7 (out), 43 PF6/ADDR6 (out), 44 PF5/ADDR5 (out), 45 PF4/ADDR4 (out), 46 PF3/ADDR3 (out), 47 PF2/ADDR2 (out), 48 PF1/ADDR1 (out), 49 PF0/ADDR0 (out), 50 PC0/DATA0 (io), 51 PC1/DATA1 (io), 52 PC2/DATA2 (io), 53 PC3/DATA3 (io), 54 PC4/DATA4 (io), 55 PC5/DATA5 (io), 56 PC6/DATA6 (io), 57 PC7/DATA7 (io), 58 E (out), 59 EXTAL, 60 XTAL, 61 ~{RESET} (io), 62 MODB/VSTBY (in), 63 MODA/~{LIR} (io), 64 PD0/RXD (io)

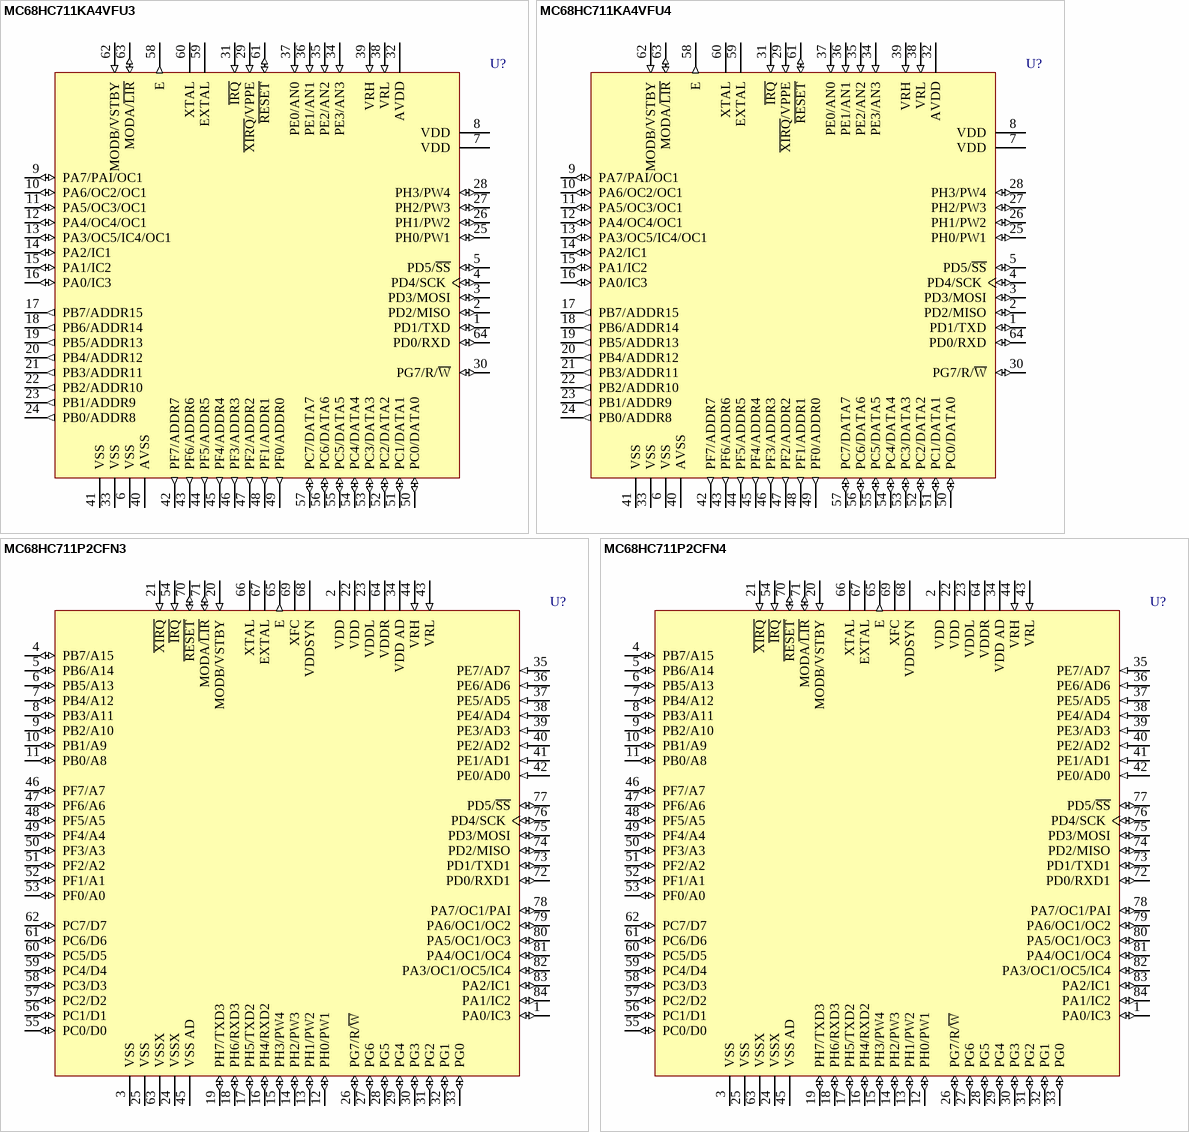
[diagram p88: symbols MC68HC711KA4VFU3 to MC68HC711P2CFN4]

## MC68HC711KA4VFU3
designator U?
8-Bit Microcontroller; Published: 17-Jan-2003; LatestRevisionDate: 13-Apr-2006; LatestRevisionNote: IPC-7351 Footprint Added.; DatasheetVersion: 1996; PackageVersion: rev4, Jul-2002; PackageReference: 840C; Publisher: Altium Limited; PackageDescription: 64-Pin Quad Flat Pack 0.8 mm Pitch; ComponentLink1Description: Manufacturer Link; ComponentLink1URL: http://www.freescale.com/
footprint 840C_N (QFP, 64-Leads, Body 14x14mm, Pitch 0.8mm, IPC Medium Density)
footprint 840C_L (QFP, 64-Leads, Body 14x14mm, Pitch 0.8mm, IPC High Density)
footprint 840C_M (QFP, 64-Leads, Body 14x14mm, Pitch 0.8mm, IPC Low Density)
3D model MC68HC711-840C (64-Pin Quad Flat Pack 0.8 mm Pitch)
pins: 1 PD1/TXD (io), 2 PD2/MISO (io), 3 PD3/MOSI (io), 4 PD4/SCK (io), 5 PD5/~{SS} (io), 6 VSS (power), 7 VDD (power), 8 VDD (power), 9 PA7/PAI/OC1 (io), 10 PA6/OC2/OC1 (io), 11 PA5/OC3/OC1 (io), 12 PA4/OC4/OC1 (io), 13 PA3/OC5/IC4/OC1 (io), 14 PA2/IC1 (io), 15 PA1/IC2 (io), 16 PA0/IC3 (io), 17 PB7/ADDR15 (out), 18 PB6/ADDR14 (out), 19 PB5/ADDR13 (out), 20 PB4/ADDR12 (out), 21 PB3/ADDR11 (out), 22 PB2/ADDR10 (out), 23 PB1/ADDR9 (out), 24 PB0/ADDR8 (out), 25 PH0/PW1 (io), 26 PH1/PW2 (io), 27 PH2/PW3 (io), 28 PH3/PW4 (io), 29 ~{XIRQ}/VPPE (in), 30 PG7/R/~{W} (io), 31 ~{IRQ} (in), 32 AVDD (power), 33 VSS (power), 34 PE3/AN3 (in), 35 PE2/AN2 (in), 36 PE1/AN1 (in), 37 PE0/AN0 (in), 38 VRL (in), 39 VRH (in), 40 AVSS (power), 41 VSS (power), 42 PF7/ADDR7 (out), 43 PF6/ADDR6 (out), 44 PF5/ADDR5 (out), 45 PF4/ADDR4 (out), 46 PF3/ADDR3 (out), 47 PF2/ADDR2 (out), 48 PF1/ADDR1 (out), 49 PF0/ADDR0 (out), 50 PC0/DATA0 (io), 51 PC1/DATA1 (io), 52 PC2/DATA2 (io), 53 PC3/DATA3 (io), 54 PC4/DATA4 (io), 55 PC5/DATA5 (io), 56 PC6/DATA6 (io), 57 PC7/DATA7 (io), 58 E (out), 59 EXTAL, 60 XTAL, 61 ~{RESET} (io), 62 MODB/VSTBY (in), 63 MODA/~{LIR} (io), 64 PD0/RXD (io)

## MC68HC711KA4VFU4
designator U?
8-Bit Microcontroller; Published: 17-Jan-2003; LatestRevisionDate: 13-Apr-2006; LatestRevisionNote: IPC-7351 Footprint Added.; DatasheetVersion: 1996; PackageVersion: rev4, Jul-2002; PackageReference: 840C; Publisher: Altium Limited; PackageDescription: 64-Pin Quad Flat Pack 0.8 mm Pitch; ComponentLink1Description: Manufacturer Link; ComponentLink1URL: http://www.freescale.com/
footprint 840C_N (QFP, 64-Leads, Body 14x14mm, Pitch 0.8mm, IPC Medium Density)
footprint 840C_L (QFP, 64-Leads, Body 14x14mm, Pitch 0.8mm, IPC High Density)
footprint 840C_M (QFP, 64-Leads, Body 14x14mm, Pitch 0.8mm, IPC Low Density)
3D model MC68HC711-840C (64-Pin Quad Flat Pack 0.8 mm Pitch)
pins: 1 PD1/TXD (io), 2 PD2/MISO (io), 3 PD3/MOSI (io), 4 PD4/SCK (io), 5 PD5/~{SS} (io), 6 VSS (power), 7 VDD (power), 8 VDD (power), 9 PA7/PAI/OC1 (io), 10 PA6/OC2/OC1 (io), 11 PA5/OC3/OC1 (io), 12 PA4/OC4/OC1 (io), 13 PA3/OC5/IC4/OC1 (io), 14 PA2/IC1 (io), 15 PA1/IC2 (io), 16 PA0/IC3 (io), 17 PB7/ADDR15 (out), 18 PB6/ADDR14 (out), 19 PB5/ADDR13 (out), 20 PB4/ADDR12 (out), 21 PB3/ADDR11 (out), 22 PB2/ADDR10 (out), 23 PB1/ADDR9 (out), 24 PB0/ADDR8 (out), 25 PH0/PW1 (io), 26 PH1/PW2 (io), 27 PH2/PW3 (io), 28 PH3/PW4 (io), 29 ~{XIRQ}/VPPE (in), 30 PG7/R/~{W} (io), 31 ~{IRQ} (in), 32 AVDD (power), 33 VSS (power), 34 PE3/AN3 (in), 35 PE2/AN2 (in), 36 PE1/AN1 (in), 37 PE0/AN0 (in), 38 VRL (in), 39 VRH (in), 40 AVSS (power), 41 VSS (power), 42 PF7/ADDR7 (out), 43 PF6/ADDR6 (out), 44 PF5/ADDR5 (out), 45 PF4/ADDR4 (out), 46 PF3/ADDR3 (out), 47 PF2/ADDR2 (out), 48 PF1/ADDR1 (out), 49 PF0/ADDR0 (out), 50 PC0/DATA0 (io), 51 PC1/DATA1 (io), 52 PC2/DATA2 (io), 53 PC3/DATA3 (io), 54 PC4/DATA4 (io), 55 PC5/DATA5 (io), 56 PC6/DATA6 (io), 57 PC7/DATA7 (io), 58 E (out), 59 EXTAL, 60 XTAL, 61 ~{RESET} (io), 62 MODB/VSTBY (in), 63 MODA/~{LIR} (io), 64 PD0/RXD (io)

## MC68HC711P2CFN3
designator U?
8-Bit Microcontroller; Published: 17-Jan-2003; LatestRevisionDate: 13-Apr-2006; LatestRevisionNote: IPC-7351 Footprint Added.; DatasheetVersion: 4-Apr-2002; PackageVersion: 1996; PackageReference: 780-01; Publisher: Altium Limited; PackageDescription: 84-Pin Leaded Chip Carrier 1.27 mm Pitch; Code_IPC: PLCC-84; ComponentLink1Description: Manufacturer Link; ComponentLink1URL: http://www.freescale.com/
footprint 780-01_N (Leaded Chip Carrier, 84-Leads, Body 29.3x29.3mm, Pitch 1.27mm, IPC Medium Density)
footprint 780-01_L (Leaded Chip Carrier, 84-Leads, Body 29.3x29.3mm, Pitch 1.27mm, IPC High Density)
footprint 780-01_M (Leaded Chip Carrier, 84-Leads, Body 29.3x29.3mm, Pitch 1.27mm, IPC Low Density)
3D model MC68HC711-780-01 (84-Pin Leaded Chip Carrier 1.27 mm Pitch)
pins: 1 PA0/IC3 (io), 2 VDD (power), 3 VSS (power), 4 PB7/A15 (io), 5 PB6/A14 (io), 6 PB5/A13 (io), 7 PB4/A12 (io), 8 PB3/A11 (io), 9 PB2/A10 (io), 10 PB1/A9 (io), 11 PB0/A8 (io), 12 PH0/PW1 (io), 13 PH1/PW2 (io), 14 PH2/PW3 (io), 15 PH3/PW4 (io), 16 PH4/RXD2 (io), 17 PH5/TXD2 (io), 18 PH6/RXD3 (io), 19 PH7/TXD3 (io), 20 MODB/VSTBY (in), 21 ~{XIRQ} (in), 22 VDD (power), 23 VDDL (power), 24 VSSX (power), 25 VSS (power), 26 PG7/R/~{W} (io), 27 PG6 (io), 28 PG5 (io), 29 PG4 (io), 30 PG3 (io), 31 PG2 (io), 32 PG1 (io), 33 PG0 (io), 34 VDD AD (power), 35 PE7/AD7 (in), 36 PE6/AD6 (in), 37 PE5/AD5 (in), 38 PE4/AD4 (in), 39 PE3/AD3 (in), 40 PE2/AD2 (in), 41 PE1/AD1 (in), 42 PE0/AD0 (in), 43 VRL (in), 44 VRH (in), 45 VSS AD (power), 46 PF7/A7 (io), 47 PF6/A6 (io), 48 PF5/A5 (io), 49 PF4/A4 (io), 50 PF3/A3 (io), 51 PF2/A2 (io), 52 PF1/A1 (io), 53 PF0/A0 (io), 54 ~{IRQ} (in), 55 PC0/D0 (io), 56 PC1/D1 (io), 57 PC2/D2 (io), 58 PC3/D3 (io), 59 PC4/D4 (io), 60 PC5/D5 (io), 61 PC6/D6 (io), 62 PC7/D7 (io), 63 VSSX (power), 64 VDDR (power), 65 E (out), 66 XTAL, 67 EXTAL, 68 VDDSYN (power), 69 XFC, 70 ~{RESET} (io), 71 MODA/~{LIR} (io), 72 PD0/RXD1 (io), 73 PD1/TXD1 (io), 74 PD2/MISO (io), 75 PD3/MOSI (io), 76 PD4/SCK (io), 77 PD5/~{SS} (io), 78 PA7/OC1/PAI (io), 79 PA6/OC1/OC2 (io), 80 PA5/OC1/OC3 (io), 81 PA4/OC1/OC4 (io), 82 PA3/OC1/OC5/IC4 (io), 83 PA2/IC1 (io), 84 PA1/IC2 (io)

## MC68HC711P2CFN4
designator U?
8-Bit Microcontroller; Published: 17-Jan-2003; LatestRevisionDate: 13-Apr-2006; LatestRevisionNote: IPC-7351 Footprint Added.; DatasheetVersion: 4-Apr-2002; PackageVersion: 1996; PackageReference: 780-01; Publisher: Altium Limited; PackageDescription: 84-Pin Leaded Chip Carrier 1.27 mm Pitch; Code_IPC: PLCC-84; ComponentLink1Description: Manufacturer Link; ComponentLink1URL: http://www.freescale.com/
footprint 780-01_N (Leaded Chip Carrier, 84-Leads, Body 29.3x29.3mm, Pitch 1.27mm, IPC Medium Density)
footprint 780-01_L (Leaded Chip Carrier, 84-Leads, Body 29.3x29.3mm, Pitch 1.27mm, IPC High Density)
footprint 780-01_M (Leaded Chip Carrier, 84-Leads, Body 29.3x29.3mm, Pitch 1.27mm, IPC Low Density)
3D model MC68HC711-780-01 (84-Pin Leaded Chip Carrier 1.27 mm Pitch)
pins: 1 PA0/IC3 (io), 2 VDD (power), 3 VSS (power), 4 PB7/A15 (io), 5 PB6/A14 (io), 6 PB5/A13 (io), 7 PB4/A12 (io), 8 PB3/A11 (io), 9 PB2/A10 (io), 10 PB1/A9 (io), 11 PB0/A8 (io), 12 PH0/PW1 (io), 13 PH1/PW2 (io), 14 PH2/PW3 (io), 15 PH3/PW4 (io), 16 PH4/RXD2 (io), 17 PH5/TXD2 (io), 18 PH6/RXD3 (io), 19 PH7/TXD3 (io), 20 MODB/VSTBY (in), 21 ~{XIRQ} (in), 22 VDD (power), 23 VDDL (power), 24 VSSX (power), 25 VSS (power), 26 PG7/R/~{W} (io), 27 PG6 (io), 28 PG5 (io), 29 PG4 (io), 30 PG3 (io), 31 PG2 (io), 32 PG1 (io), 33 PG0 (io), 34 VDD AD (power), 35 PE7/AD7 (in), 36 PE6/AD6 (in), 37 PE5/AD5 (in), 38 PE4/AD4 (in), 39 PE3/AD3 (in), 40 PE2/AD2 (in), 41 PE1/AD1 (in), 42 PE0/AD0 (in), 43 VRL (in), 44 VRH (in), 45 VSS AD (power), 46 PF7/A7 (io), 47 PF6/A6 (io), 48 PF5/A5 (io), 49 PF4/A4 (io), 50 PF3/A3 (io), 51 PF2/A2 (io), 52 PF1/A1 (io), 53 PF0/A0 (io), 54 ~{IRQ} (in), 55 PC0/D0 (io), 56 PC1/D1 (io), 57 PC2/D2 (io), 58 PC3/D3 (io), 59 PC4/D4 (io), 60 PC5/D5 (io), 61 PC6/D6 (io), 62 PC7/D7 (io), 63 VSSX (power), 64 VDDR (power), 65 E (out), 66 XTAL, 67 EXTAL, 68 VDDSYN (power), 69 XFC, 70 ~{RESET} (io), 71 MODA/~{LIR} (io), 72 PD0/RXD1 (io), 73 PD1/TXD1 (io), 74 PD2/MISO (io), 75 PD3/MOSI (io), 76 PD4/SCK (io), 77 PD5/~{SS} (io), 78 PA7/OC1/PAI (io), 79 PA6/OC1/OC2 (io), 80 PA5/OC1/OC3 (io), 81 PA4/OC1/OC4 (io), 82 PA3/OC1/OC5/IC4 (io), 83 PA2/IC1 (io), 84 PA1/IC2 (io)

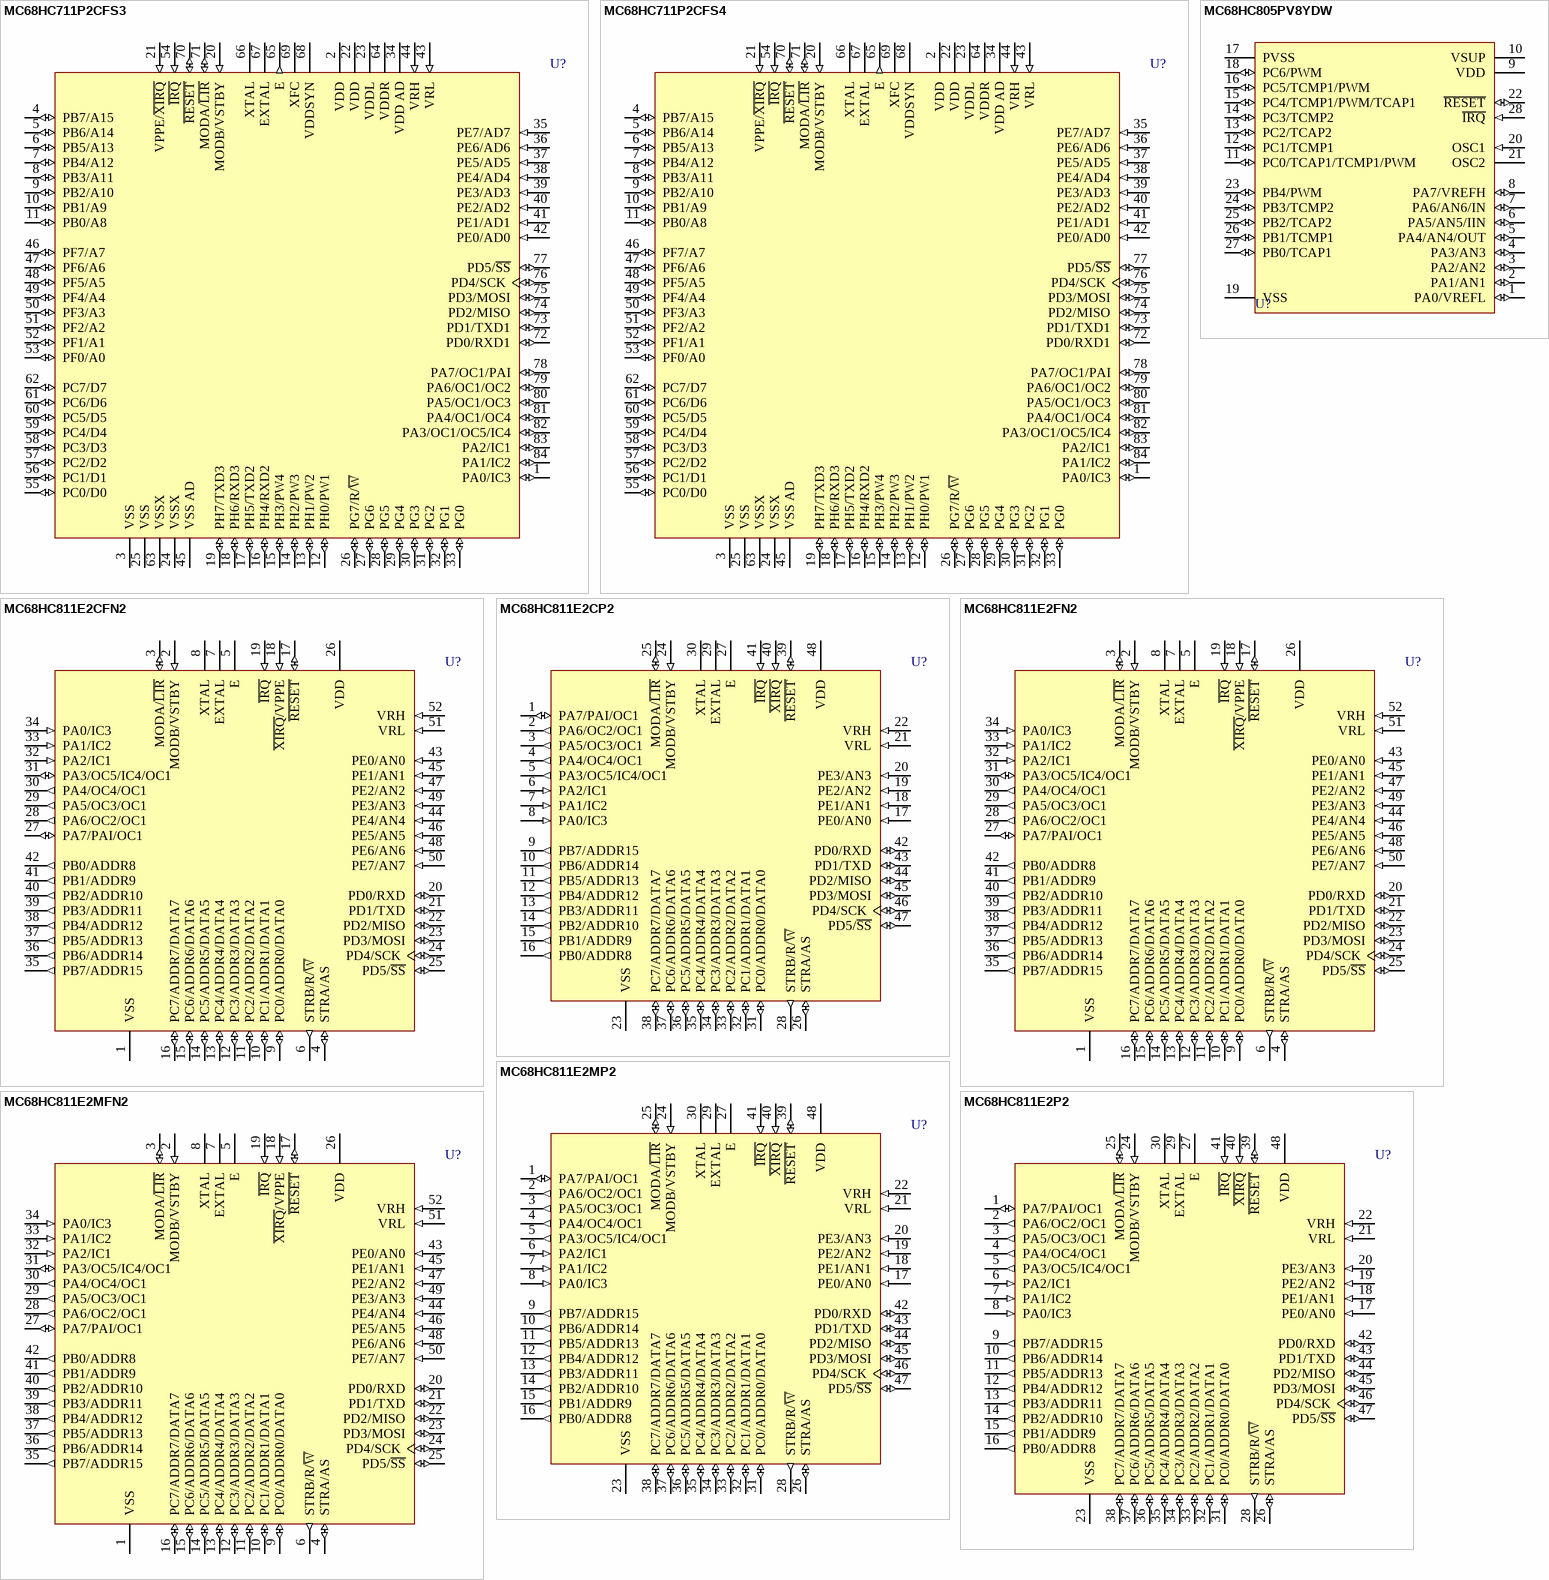
[diagram p89: symbols MC68HC711P2CFS3 to MC68HC811E2P2]

## MC68HC711P2CFS3
designator U?
8-Bit Microcontroller; Published: 17-Jan-2003; LatestRevisionDate: 13-Apr-2006; LatestRevisionNote: IPC-7351 Footprint Added.; DatasheetVersion: 4-Apr-2002; PackageVersion: rev1, Apr-2002; PackageReference: 780A-01; Publisher: Altium Limited; PackageDescription: 84-Pin Ceramic Leaded Chip Carrier 1.27 mm Pitch; Code_IPC: PLCC-84; ComponentLink1Description: Manufacturer Link; ComponentLink1URL: http://www.freescale.com/
footprint 780A-01_N (Leaded Chip Carrier, 84-Leads, Body 29.3x29.3mm, Pitch 1.27mm, IPC Medium Density)
footprint 780A-01_L (Leaded Chip Carrier, 84-Leads, Body 29.3x29.3mm, Pitch 1.27mm, IPC High Density)
footprint 780A-01_M (Leaded Chip Carrier, 84-Leads, Body 29.3x29.3mm, Pitch 1.27mm, IPC Low Density)
3D model MC68HC711-780-01 (84-Pin Ceramic Leaded Chip Carrier 1.27 mm Pitch)
pins: 1 PA0/IC3 (io), 2 VDD (power), 3 VSS (power), 4 PB7/A15 (io), 5 PB6/A14 (io), 6 PB5/A13 (io), 7 PB4/A12 (io), 8 PB3/A11 (io), 9 PB2/A10 (io), 10 PB1/A9 (io), 11 PB0/A8 (io), 12 PH0/PW1 (io), 13 PH1/PW2 (io), 14 PH2/PW3 (io), 15 PH3/PW4 (io), 16 PH4/RXD2 (io), 17 PH5/TXD2 (io), 18 PH6/RXD3 (io), 19 PH7/TXD3 (io), 20 MODB/VSTBY (in), 21 VPPE/~{XIRQ} (in), 22 VDD (power), 23 VDDL (power), 24 VSSX (power), 25 VSS (power), 26 PG7/R/~{W} (io), 27 PG6 (io), 28 PG5 (io), 29 PG4 (io), 30 PG3 (io), 31 PG2 (io), 32 PG1 (io), 33 PG0 (io), 34 VDD AD (power), 35 PE7/AD7 (in), 36 PE6/AD6 (in), 37 PE5/AD5 (in), 38 PE4/AD4 (in), 39 PE3/AD3 (in), 40 PE2/AD2 (in), 41 PE1/AD1 (in), 42 PE0/AD0 (in), 43 VRL (in), 44 VRH (in), 45 VSS AD (power), 46 PF7/A7 (io), 47 PF6/A6 (io), 48 PF5/A5 (io), 49 PF4/A4 (io), 50 PF3/A3 (io), 51 PF2/A2 (io), 52 PF1/A1 (io), 53 PF0/A0 (io), 54 ~{IRQ} (in), 55 PC0/D0 (io), 56 PC1/D1 (io), 57 PC2/D2 (io), 58 PC3/D3 (io), 59 PC4/D4 (io), 60 PC5/D5 (io), 61 PC6/D6 (io), 62 PC7/D7 (io), 63 VSSX (power), 64 VDDR (power), 65 E (out), 66 XTAL, 67 EXTAL, 68 VDDSYN (power), 69 XFC, 70 ~{RESET} (io), 71 MODA/~{LIR} (io), 72 PD0/RXD1 (io), 73 PD1/TXD1 (io), 74 PD2/MISO (io), 75 PD3/MOSI (io), 76 PD4/SCK (io), 77 PD5/~{SS} (io), 78 PA7/OC1/PAI (io), 79 PA6/OC1/OC2 (io), 80 PA5/OC1/OC3 (io), 81 PA4/OC1/OC4 (io), 82 PA3/OC1/OC5/IC4 (io), 83 PA2/IC1 (io), 84 PA1/IC2 (io)

## MC68HC711P2CFS4
designator U?
8-Bit Microcontroller; Published: 17-Jan-2003; LatestRevisionDate: 13-Apr-2006; LatestRevisionNote: IPC-7351 Footprint Added.; DatasheetVersion: 4-Apr-2002; PackageVersion: rev1, Apr-2002; PackageReference: 780A-01; Publisher: Altium Limited; PackageDescription: 84-Pin Ceramic Leaded Chip Carrier 1.27 mm Pitch; Code_IPC: PLCC-84; ComponentLink1Description: Manufacturer Link; ComponentLink1URL: http://www.freescale.com/
footprint 780A-01_N (Leaded Chip Carrier, 84-Leads, Body 29.3x29.3mm, Pitch 1.27mm, IPC Medium Density)
footprint 780A-01_L (Leaded Chip Carrier, 84-Leads, Body 29.3x29.3mm, Pitch 1.27mm, IPC High Density)
footprint 780A-01_M (Leaded Chip Carrier, 84-Leads, Body 29.3x29.3mm, Pitch 1.27mm, IPC Low Density)
3D model MC68HC711-780-01 (84-Pin Ceramic Leaded Chip Carrier 1.27 mm Pitch)
pins: 1 PA0/IC3 (io), 2 VDD (power), 3 VSS (power), 4 PB7/A15 (io), 5 PB6/A14 (io), 6 PB5/A13 (io), 7 PB4/A12 (io), 8 PB3/A11 (io), 9 PB2/A10 (io), 10 PB1/A9 (io), 11 PB0/A8 (io), 12 PH0/PW1 (io), 13 PH1/PW2 (io), 14 PH2/PW3 (io), 15 PH3/PW4 (io), 16 PH4/RXD2 (io), 17 PH5/TXD2 (io), 18 PH6/RXD3 (io), 19 PH7/TXD3 (io), 20 MODB/VSTBY (in), 21 VPPE/~{XIRQ} (in), 22 VDD (power), 23 VDDL (power), 24 VSSX (power), 25 VSS (power), 26 PG7/R/~{W} (io), 27 PG6 (io), 28 PG5 (io), 29 PG4 (io), 30 PG3 (io), 31 PG2 (io), 32 PG1 (io), 33 PG0 (io), 34 VDD AD (power), 35 PE7/AD7 (in), 36 PE6/AD6 (in), 37 PE5/AD5 (in), 38 PE4/AD4 (in), 39 PE3/AD3 (in), 40 PE2/AD2 (in), 41 PE1/AD1 (in), 42 PE0/AD0 (in), 43 VRL (in), 44 VRH (in), 45 VSS AD (power), 46 PF7/A7 (io), 47 PF6/A6 (io), 48 PF5/A5 (io), 49 PF4/A4 (io), 50 PF3/A3 (io), 51 PF2/A2 (io), 52 PF1/A1 (io), 53 PF0/A0 (io), 54 ~{IRQ} (in), 55 PC0/D0 (io), 56 PC1/D1 (io), 57 PC2/D2 (io), 58 PC3/D3 (io), 59 PC4/D4 (io), 60 PC5/D5 (io), 61 PC6/D6 (io), 62 PC7/D7 (io), 63 VSSX (power), 64 VDDR (power), 65 E (out), 66 XTAL, 67 EXTAL, 68 VDDSYN (power), 69 XFC, 70 ~{RESET} (io), 71 MODA/~{LIR} (io), 72 PD0/RXD1 (io), 73 PD1/TXD1 (io), 74 PD2/MISO (io), 75 PD3/MOSI (io), 76 PD4/SCK (io), 77 PD5/~{SS} (io), 78 PA7/OC1/PAI (io), 79 PA6/OC1/OC2 (io), 80 PA5/OC1/OC3 (io), 81 PA4/OC1/OC4 (io), 82 PA3/OC1/OC5/IC4 (io), 83 PA2/IC1 (io), 84 PA1/IC2 (io)

## MC68HC805PV8YDW
designator U?
8-Bit Microcontroller; Published: 17-Jan-2003; LatestRevisionDate: 13-Apr-2006; LatestRevisionNote: IPC-7351 Footprint Added.; DatasheetVersion: Rev 1.9, 2001; PackageReference: 751F-03; Publisher: Altium Limited; PackageDescription: 28-Pin Small Outline Integrated Circuit 1.27 mm Pitch; ComponentLink1Description: Manufacturer Link; ComponentLink1URL: http://www.freescale.com/; ComponentLink2Description: Datasheet; ComponentLink2URL: http://www.freescale.com/files/microcontrollers/doc/data_sheet/MC68HC05PV8.pdf
footprint 751F-03_N (SOIC, 28-Leads, Body 17.9x7.5mm, Pitch 1.27mm, IPC Medium Density)
footprint 751F-03_L (SOIC, 28-Leads, Body 17.9x7.5mm, Pitch 1.27mm, IPC High Density)
footprint 751F-03_M (SOIC, 28-Leads, Body 17.9x7.5mm, Pitch 1.27mm, IPC Low Density)
3D model 751F-03 (28-Pin Small Outline Integrated Circuit 1.27 mm Pitch)
pins: 1 PA0/VREFL (io), 2 PA1/AN1 (io), 3 PA2/AN2 (io), 4 PA3/AN3 (io), 5 PA4/AN4/OUT (io), 6 PA5/AN5/IIN (io), 7 PA6/AN6/IN (io), 8 PA7/VREFH (io), 9 VDD (power), 10 VSUP (power), 11 PC0/TCAP1/TCMP1/PWM (io), 12 PC1/TCMP1 (io), 13 PC2/TCAP2 (io), 14 PC3/TCMP2 (io), 15 PC4/TCMP1/PWM/TCAP1 (io), 16 PC5/TCMP1/PWM (io), 17 PVSS (power), 18 PC6/PWM (io), 19 VSS (power), 20 OSC1 (in), 21 OSC2, 22 ~{RESET} (io), 23 PB4/PWM (io), 24 PB3/TCMP2 (io), 25 PB2/TCAP2 (io), 26 PB1/TCMP1 (io), 27 PB0/TCAP1 (io), 28 ~{IRQ} (in)

## MC68HC811E2CFN2
designator U?
8-Bit Microcontroller; Published: 17-Jan-2003; LatestRevisionDate: 13-Apr-2006; LatestRevisionNote: IPC-7351 Footprint Added.; DatasheetVersion: 25-Jul-2002; PackageVersion: rev3, 1997; PackageReference: 778-02; Publisher: Altium Limited; PackageDescription: 52-Pin Plastic Leaded Chip Carrier 1.27 mm Pitch; ComponentLink1Description: Manufacturer Link; ComponentLink1URL: http://www.freescale.com/; ComponentLink2Description: Datasheet; ComponentLink2URL: http://www.freescale.com/files/microcontrollers/doc/data_sheet/M68HC11E.pdf
footprint 778-02_N (Leaded Chip Carrier, 52-Leads, Body 19x19mm, Pitch 1.27mm, IPC Medium Density)
footprint 778-02_L (Leaded Chip Carrier, 52-Leads, Body 19x19mm, Pitch 1.27mm, IPC High Density)
footprint 778-02_M (Leaded Chip Carrier, 52-Leads, Body 19x19mm, Pitch 1.27mm, IPC Low Density)
3D model MC68HC811-778-02 (52-Pin Plastic Leaded Chip Carrier 1.27 mm Pitch)
pins: 1 VSS (power), 2 MODB/VSTBY (in), 3 MODA/~{LIR} (io), 4 STRA/AS (io), 5 E, 6 STRB/R/~{W} (out), 7 EXTAL, 8 XTAL, 9 PC0/ADDR0/DATA0 (io), 10 PC1/ADDR1/DATA1 (io), 11 PC2/ADDR2/DATA2 (io), 12 PC3/ADDR3/DATA3 (io), 13 PC4/ADDR4/DATA4 (io), 14 PC5/ADDR5/DATA5 (io), 15 PC6/ADDR6/DATA6 (io), 16 PC7/ADDR7/DATA7 (io), 17 ~{RESET} (io), 18 ~{XIRQ}/VPPE (in), 19 ~{IRQ} (in), 20 PD0/RXD (io), 21 PD1/TXD (io), 22 PD2/MISO (io), 23 PD3/MOSI (io), 24 PD4/SCK (io), 25 PD5/~{SS} (io), 26 VDD (power), 27 PA7/PAI/OC1 (io), 28 PA6/OC2/OC1 (out), 29 PA5/OC3/OC1 (out), 30 PA4/OC4/OC1 (out), 31 PA3/OC5/IC4/OC1 (io), 32 PA2/IC1 (in), 33 PA1/IC2 (in), 34 PA0/IC3 (in), 35 PB7/ADDR15 (out), 36 PB6/ADDR14 (out), 37 PB5/ADDR13 (out), 38 PB4/ADDR12 (out), 39 PB3/ADDR11 (out), 40 PB2/ADDR10 (out), 41 PB1/ADDR9 (out), 42 PB0/ADDR8 (out), 43 PE0/AN0 (in), 44 PE4/AN4 (in), 45 PE1/AN1 (in), 46 PE5/AN5 (in), 47 PE2/AN2 (in), 48 PE6/AN6 (in), 49 PE3/AN3 (in), 50 PE7/AN7 (in), 51 VRL (in), 52 VRH (in)

## MC68HC811E2CP2
designator U?
8-Bit Microcontroller; Published: 17-Jan-2003; LatestRevisionDate: 06-Jun-2005; LatestRevisionNote: Stylized 3D Model Added.; DatasheetVersion: Rev 4, 7/2002; PackageReference: 767-02; Publisher: Altium Limited; PackageDescription: DIP; 48 Leads; Row Spacing 15.24 mm; Pitch 2.54 mm; ComponentLink1Description: Manufacturer Link; ComponentLink1URL: http://www.freescale.com/; ComponentLink2Description: Datasheet; ComponentLink2URL: http://www.freescale.com/files/microcontrollers/doc/data_sheet/M68HC11E.pdf
footprint 767-02 (DIP; 48 Leads; Row Spacing 15.24 mm; Pitch 2.54 mm)
3D model 767-02 (DIP; 48 Leads; Row Spacing 15.24 mm; Pitch 2.54 mm)
pins: 1 PA7/PAI/OC1 (io), 2 PA6/OC2/OC1 (out), 3 PA5/OC3/OC1 (out), 4 PA4/OC4/OC1 (out), 5 PA3/OC5/IC4/OC1 (out), 6 PA2/IC1 (in), 7 PA1/IC2 (in), 8 PA0/IC3 (in), 9 PB7/ADDR15 (out), 10 PB6/ADDR14 (out), 11 PB5/ADDR13 (out), 12 PB4/ADDR12 (out), 13 PB3/ADDR11 (out), 14 PB2/ADDR10 (out), 15 PB1/ADDR9 (out), 16 PB0/ADDR8 (out), 17 PE0/AN0 (in), 18 PE1/AN1 (in), 19 PE2/AN2 (in), 20 PE3/AN3 (in), 21 VRL (in), 22 VRH (in), 23 VSS (power), 24 MODB/VSTBY (in), 25 MODA/~{LIR} (io), 26 STRA/AS (io), 27 E, 28 STRB/R/~{W} (out), 29 EXTAL, 30 XTAL, 31 PC0/ADDR0/DATA0 (io), 32 PC1/ADDR1/DATA1 (io), 33 PC2/ADDR2/DATA2 (io), 34 PC3/ADDR3/DATA3 (io), 35 PC4/ADDR4/DATA4 (io), 36 PC5/ADDR5/DATA5 (io), 37 PC6/ADDR6/DATA6 (io), 38 PC7/ADDR7/DATA7 (io), 39 ~{RESET} (io), 40 ~{XIRQ} (in), 41 ~{IRQ} (in), 42 PD0/RXD (io), 43 PD1/TXD (io), 44 PD2/MISO (io), 45 PD3/MOSI (io), 46 PD4/SCK (io), 47 PD5/~{SS} (io), 48 VDD (power)

## MC68HC811E2FN2
designator U?
8-Bit Microcontroller; Published: 17-Jan-2003; LatestRevisionDate: 13-Apr-2006; LatestRevisionNote: IPC-7351 Footprint Added.; DatasheetVersion: 25-Jul-2002; PackageVersion: rev3, 1997; PackageReference: 778-02; Publisher: Altium Limited; PackageDescription: 52-Pin Plastic Leaded Chip Carrier 1.27 mm Pitch; ComponentLink1Description: Manufacturer Link; ComponentLink1URL: http://www.freescale.com/; ComponentLink2Description: Datasheet; ComponentLink2URL: http://www.freescale.com/files/microcontrollers/doc/data_sheet/M68HC11E.pdf
footprint 778-02_N (Leaded Chip Carrier, 52-Leads, Body 19x19mm, Pitch 1.27mm, IPC Medium Density)
footprint 778-02_L (Leaded Chip Carrier, 52-Leads, Body 19x19mm, Pitch 1.27mm, IPC High Density)
footprint 778-02_M (Leaded Chip Carrier, 52-Leads, Body 19x19mm, Pitch 1.27mm, IPC Low Density)
3D model MC68HC811-778-02 (52-Pin Plastic Leaded Chip Carrier 1.27 mm Pitch)
pins: 1 VSS (power), 2 MODB/VSTBY (in), 3 MODA/~{LIR} (io), 4 STRA/AS (io), 5 E, 6 STRB/R/~{W} (out), 7 EXTAL, 8 XTAL, 9 PC0/ADDR0/DATA0 (io), 10 PC1/ADDR1/DATA1 (io), 11 PC2/ADDR2/DATA2 (io), 12 PC3/ADDR3/DATA3 (io), 13 PC4/ADDR4/DATA4 (io), 14 PC5/ADDR5/DATA5 (io), 15 PC6/ADDR6/DATA6 (io), 16 PC7/ADDR7/DATA7 (io), 17 ~{RESET} (io), 18 ~{XIRQ}/VPPE (in), 19 ~{IRQ} (in), 20 PD0/RXD (io), 21 PD1/TXD (io), 22 PD2/MISO (io), 23 PD3/MOSI (io), 24 PD4/SCK (io), 25 PD5/~{SS} (io), 26 VDD (power), 27 PA7/PAI/OC1 (io), 28 PA6/OC2/OC1 (out), 29 PA5/OC3/OC1 (out), 30 PA4/OC4/OC1 (out), 31 PA3/OC5/IC4/OC1 (io), 32 PA2/IC1 (in), 33 PA1/IC2 (in), 34 PA0/IC3 (in), 35 PB7/ADDR15 (out), 36 PB6/ADDR14 (out), 37 PB5/ADDR13 (out), 38 PB4/ADDR12 (out), 39 PB3/ADDR11 (out), 40 PB2/ADDR10 (out), 41 PB1/ADDR9 (out), 42 PB0/ADDR8 (out), 43 PE0/AN0 (in), 44 PE4/AN4 (in), 45 PE1/AN1 (in), 46 PE5/AN5 (in), 47 PE2/AN2 (in), 48 PE6/AN6 (in), 49 PE3/AN3 (in), 50 PE7/AN7 (in), 51 VRL (in), 52 VRH (in)

## MC68HC811E2MFN2
designator U?
8-Bit Microcontroller; Published: 17-Jan-2003; LatestRevisionDate: 13-Apr-2006; LatestRevisionNote: IPC-7351 Footprint Added.; DatasheetVersion: 25-Jul-2002; PackageVersion: rev3, 1997; PackageReference: 778-02; Publisher: Altium Limited; PackageDescription: 52-Pin Plastic Leaded Chip Carrier 1.27 mm Pitch; ComponentLink1Description: Manufacturer Link; ComponentLink1URL: http://www.freescale.com/; ComponentLink2Description: Datasheet; ComponentLink2URL: http://www.freescale.com/files/microcontrollers/doc/data_sheet/M68HC11E.pdf
footprint 778-02_N (Leaded Chip Carrier, 52-Leads, Body 19x19mm, Pitch 1.27mm, IPC Medium Density)
footprint 778-02_L (Leaded Chip Carrier, 52-Leads, Body 19x19mm, Pitch 1.27mm, IPC High Density)
footprint 778-02_M (Leaded Chip Carrier, 52-Leads, Body 19x19mm, Pitch 1.27mm, IPC Low Density)
3D model MC68HC811-778-02 (52-Pin Plastic Leaded Chip Carrier 1.27 mm Pitch)
pins: 1 VSS (power), 2 MODB/VSTBY (in), 3 MODA/~{LIR} (io), 4 STRA/AS (io), 5 E, 6 STRB/R/~{W} (out), 7 EXTAL, 8 XTAL, 9 PC0/ADDR0/DATA0 (io), 10 PC1/ADDR1/DATA1 (io), 11 PC2/ADDR2/DATA2 (io), 12 PC3/ADDR3/DATA3 (io), 13 PC4/ADDR4/DATA4 (io), 14 PC5/ADDR5/DATA5 (io), 15 PC6/ADDR6/DATA6 (io), 16 PC7/ADDR7/DATA7 (io), 17 ~{RESET} (io), 18 ~{XIRQ}/VPPE (in), 19 ~{IRQ} (in), 20 PD0/RXD (io), 21 PD1/TXD (io), 22 PD2/MISO (io), 23 PD3/MOSI (io), 24 PD4/SCK (io), 25 PD5/~{SS} (io), 26 VDD (power), 27 PA7/PAI/OC1 (io), 28 PA6/OC2/OC1 (out), 29 PA5/OC3/OC1 (out), 30 PA4/OC4/OC1 (out), 31 PA3/OC5/IC4/OC1 (io), 32 PA2/IC1 (in), 33 PA1/IC2 (in), 34 PA0/IC3 (in), 35 PB7/ADDR15 (out), 36 PB6/ADDR14 (out), 37 PB5/ADDR13 (out), 38 PB4/ADDR12 (out), 39 PB3/ADDR11 (out), 40 PB2/ADDR10 (out), 41 PB1/ADDR9 (out), 42 PB0/ADDR8 (out), 43 PE0/AN0 (in), 44 PE4/AN4 (in), 45 PE1/AN1 (in), 46 PE5/AN5 (in), 47 PE2/AN2 (in), 48 PE6/AN6 (in), 49 PE3/AN3 (in), 50 PE7/AN7 (in), 51 VRL (in), 52 VRH (in)

## MC68HC811E2MP2
designator U?
8-Bit Microcontroller; Published: 17-Jan-2003; LatestRevisionDate: 06-Jun-2005; LatestRevisionNote: Stylized 3D Model Added.; DatasheetVersion: Rev 4, 7/2002; PackageReference: 767-02; Publisher: Altium Limited; PackageDescription: DIP; 48 Leads; Row Spacing 15.24 mm; Pitch 2.54 mm; ComponentLink1Description: Manufacturer Link; ComponentLink1URL: http://www.freescale.com/; ComponentLink2Description: Datasheet; ComponentLink2URL: http://www.freescale.com/files/microcontrollers/doc/data_sheet/M68HC11E.pdf
footprint 767-02 (DIP; 48 Leads; Row Spacing 15.24 mm; Pitch 2.54 mm)
3D model 767-02 (DIP; 48 Leads; Row Spacing 15.24 mm; Pitch 2.54 mm)
pins: 1 PA7/PAI/OC1 (io), 2 PA6/OC2/OC1 (out), 3 PA5/OC3/OC1 (out), 4 PA4/OC4/OC1 (out), 5 PA3/OC5/IC4/OC1 (out), 6 PA2/IC1 (in), 7 PA1/IC2 (in), 8 PA0/IC3 (in), 9 PB7/ADDR15 (out), 10 PB6/ADDR14 (out), 11 PB5/ADDR13 (out), 12 PB4/ADDR12 (out), 13 PB3/ADDR11 (out), 14 PB2/ADDR10 (out), 15 PB1/ADDR9 (out), 16 PB0/ADDR8 (out), 17 PE0/AN0 (in), 18 PE1/AN1 (in), 19 PE2/AN2 (in), 20 PE3/AN3 (in), 21 VRL (in), 22 VRH (in), 23 VSS (power), 24 MODB/VSTBY (in), 25 MODA/~{LIR} (io), 26 STRA/AS (io), 27 E, 28 STRB/R/~{W} (out), 29 EXTAL, 30 XTAL, 31 PC0/ADDR0/DATA0 (io), 32 PC1/ADDR1/DATA1 (io), 33 PC2/ADDR2/DATA2 (io), 34 PC3/ADDR3/DATA3 (io), 35 PC4/ADDR4/DATA4 (io), 36 PC5/ADDR5/DATA5 (io), 37 PC6/ADDR6/DATA6 (io), 38 PC7/ADDR7/DATA7 (io), 39 ~{RESET} (io), 40 ~{XIRQ} (in), 41 ~{IRQ} (in), 42 PD0/RXD (io), 43 PD1/TXD (io), 44 PD2/MISO (io), 45 PD3/MOSI (io), 46 PD4/SCK (io), 47 PD5/~{SS} (io), 48 VDD (power)

## MC68HC811E2P2
designator U?
8-Bit Microcontroller; Published: 17-Jan-2003; LatestRevisionDate: 06-Jun-2005; LatestRevisionNote: Stylized 3D Model Added.; DatasheetVersion: Rev 4, 7/2002; PackageReference: 767-02; Publisher: Altium Limited; PackageDescription: DIP; 48 Leads; Row Spacing 15.24 mm; Pitch 2.54 mm; ComponentLink1Description: Manufacturer Link; ComponentLink1URL: http://www.freescale.com/; ComponentLink2Description: Datasheet; ComponentLink2URL: http://www.freescale.com/files/microcontrollers/doc/data_sheet/M68HC11E.pdf
footprint 767-02 (DIP; 48 Leads; Row Spacing 15.24 mm; Pitch 2.54 mm)
3D model 767-02 (DIP; 48 Leads; Row Spacing 15.24 mm; Pitch 2.54 mm)
pins: 1 PA7/PAI/OC1 (io), 2 PA6/OC2/OC1 (out), 3 PA5/OC3/OC1 (out), 4 PA4/OC4/OC1 (out), 5 PA3/OC5/IC4/OC1 (out), 6 PA2/IC1 (in), 7 PA1/IC2 (in), 8 PA0/IC3 (in), 9 PB7/ADDR15 (out), 10 PB6/ADDR14 (out), 11 PB5/ADDR13 (out), 12 PB4/ADDR12 (out), 13 PB3/ADDR11 (out), 14 PB2/ADDR10 (out), 15 PB1/ADDR9 (out), 16 PB0/ADDR8 (out), 17 PE0/AN0 (in), 18 PE1/AN1 (in), 19 PE2/AN2 (in), 20 PE3/AN3 (in), 21 VRL (in), 22 VRH (in), 23 VSS (power), 24 MODB/VSTBY (in), 25 MODA/~{LIR} (io), 26 STRA/AS (io), 27 E, 28 STRB/R/~{W} (out), 29 EXTAL, 30 XTAL, 31 PC0/ADDR0/DATA0 (io), 32 PC1/ADDR1/DATA1 (io), 33 PC2/ADDR2/DATA2 (io), 34 PC3/ADDR3/DATA3 (io), 35 PC4/ADDR4/DATA4 (io), 36 PC5/ADDR5/DATA5 (io), 37 PC6/ADDR6/DATA6 (io), 38 PC7/ADDR7/DATA7 (io), 39 ~{RESET} (io), 40 ~{XIRQ} (in), 41 ~{IRQ} (in), 42 PD0/RXD (io), 43 PD1/TXD (io), 44 PD2/MISO (io), 45 PD3/MOSI (io), 46 PD4/SCK (io), 47 PD5/~{SS} (io), 48 VDD (power)

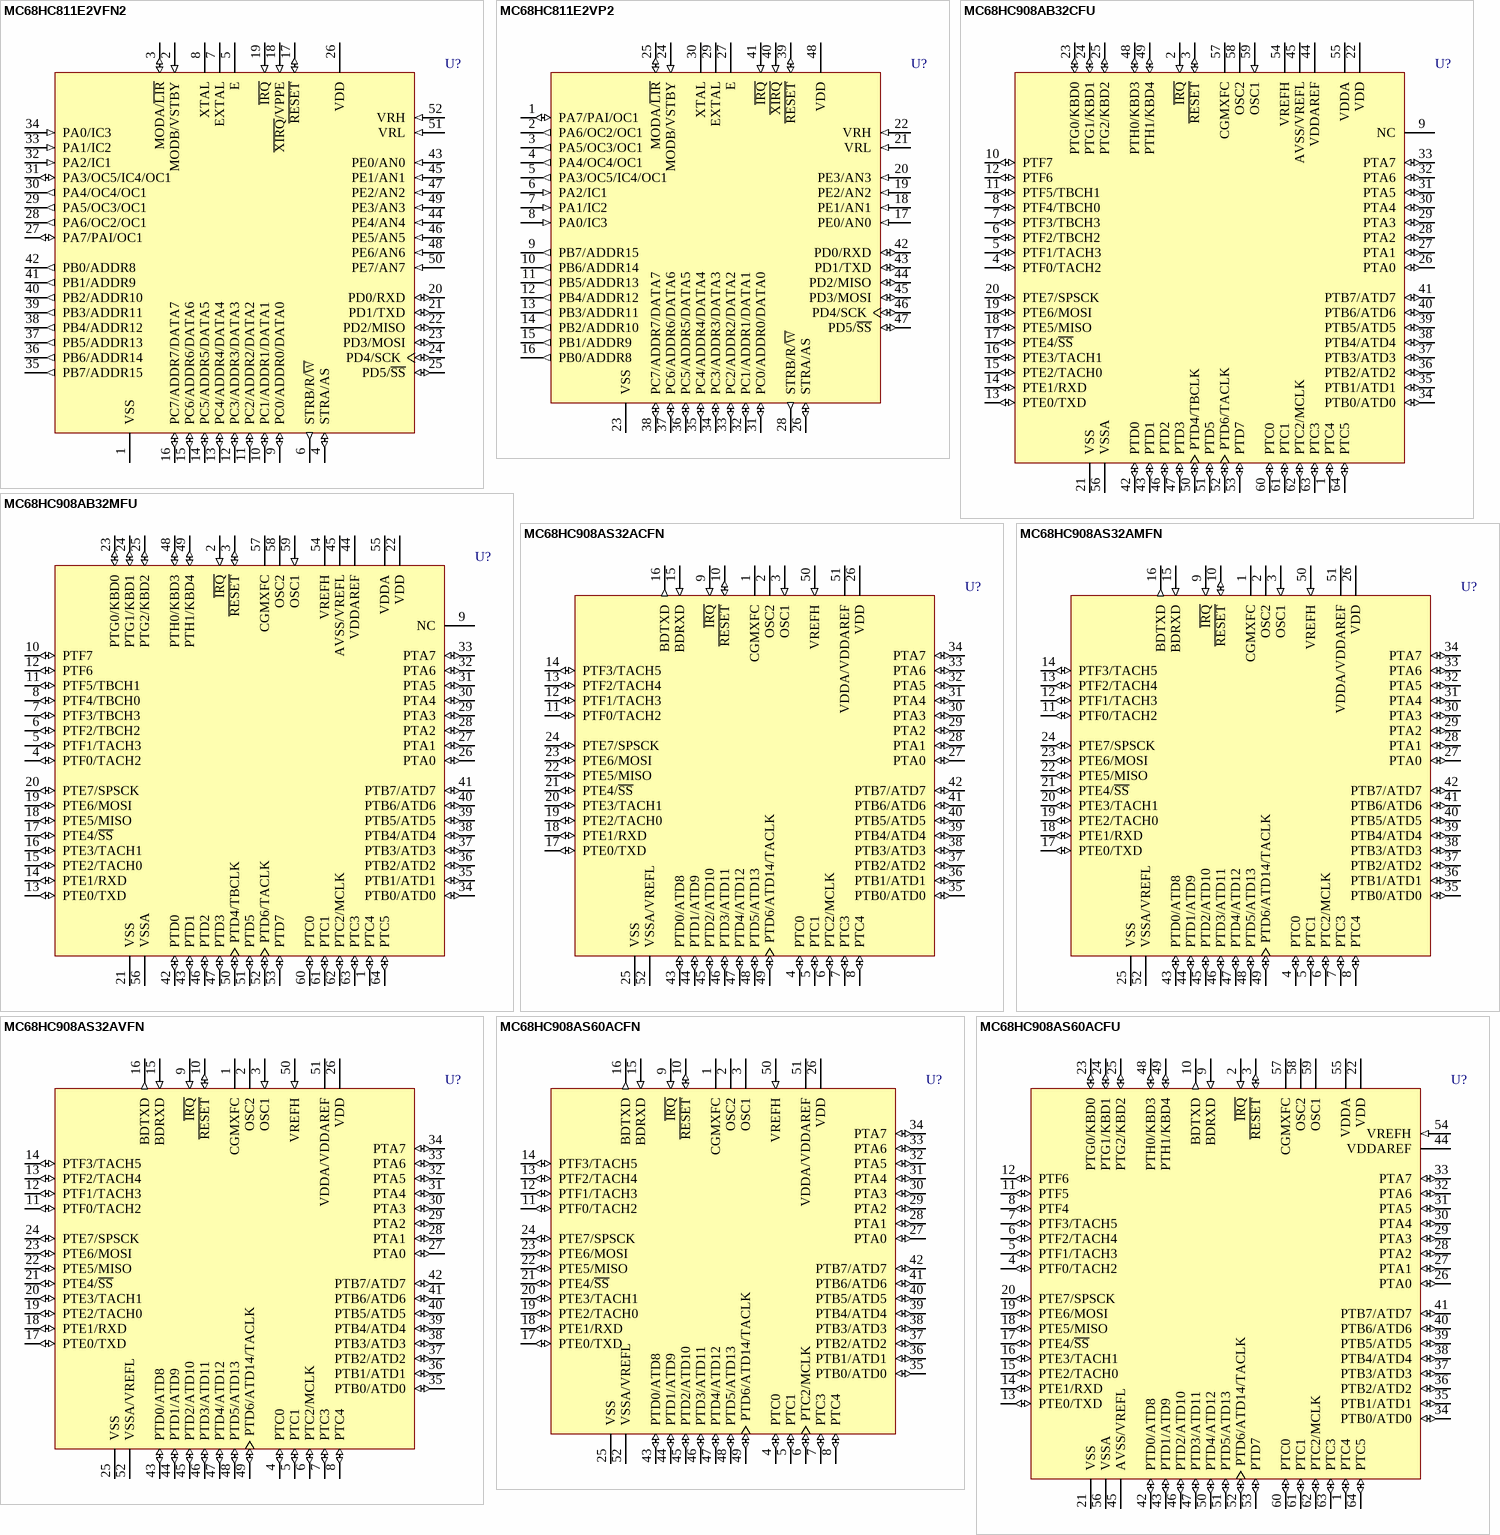
[diagram p90: symbols MC68HC811E2VFN2 to MC68HC908AS60ACFU]

## MC68HC811E2VFN2
designator U?
8-Bit Microcontroller; Published: 17-Jan-2003; LatestRevisionDate: 13-Apr-2006; LatestRevisionNote: IPC-7351 Footprint Added.; DatasheetVersion: 25-Jul-2002; PackageVersion: rev3, 1997; PackageReference: 778-02; Publisher: Altium Limited; PackageDescription: 52-Pin Plastic Leaded Chip Carrier 1.27 mm Pitch; ComponentLink1Description: Manufacturer Link; ComponentLink1URL: http://www.freescale.com/; ComponentLink2Description: Datasheet; ComponentLink2URL: http://www.freescale.com/files/microcontrollers/doc/data_sheet/M68HC11E.pdf
footprint 778-02_N (Leaded Chip Carrier, 52-Leads, Body 19x19mm, Pitch 1.27mm, IPC Medium Density)
footprint 778-02_L (Leaded Chip Carrier, 52-Leads, Body 19x19mm, Pitch 1.27mm, IPC High Density)
footprint 778-02_M (Leaded Chip Carrier, 52-Leads, Body 19x19mm, Pitch 1.27mm, IPC Low Density)
3D model MC68HC811-778-02 (52-Pin Plastic Leaded Chip Carrier 1.27 mm Pitch)
pins: 1 VSS (power), 2 MODB/VSTBY (in), 3 MODA/~{LIR} (io), 4 STRA/AS (io), 5 E, 6 STRB/R/~{W} (out), 7 EXTAL, 8 XTAL, 9 PC0/ADDR0/DATA0 (io), 10 PC1/ADDR1/DATA1 (io), 11 PC2/ADDR2/DATA2 (io), 12 PC3/ADDR3/DATA3 (io), 13 PC4/ADDR4/DATA4 (io), 14 PC5/ADDR5/DATA5 (io), 15 PC6/ADDR6/DATA6 (io), 16 PC7/ADDR7/DATA7 (io), 17 ~{RESET} (io), 18 ~{XIRQ}/VPPE (in), 19 ~{IRQ} (in), 20 PD0/RXD (io), 21 PD1/TXD (io), 22 PD2/MISO (io), 23 PD3/MOSI (io), 24 PD4/SCK (io), 25 PD5/~{SS} (io), 26 VDD (power), 27 PA7/PAI/OC1 (io), 28 PA6/OC2/OC1 (out), 29 PA5/OC3/OC1 (out), 30 PA4/OC4/OC1 (out), 31 PA3/OC5/IC4/OC1 (io), 32 PA2/IC1 (in), 33 PA1/IC2 (in), 34 PA0/IC3 (in), 35 PB7/ADDR15 (out), 36 PB6/ADDR14 (out), 37 PB5/ADDR13 (out), 38 PB4/ADDR12 (out), 39 PB3/ADDR11 (out), 40 PB2/ADDR10 (out), 41 PB1/ADDR9 (out), 42 PB0/ADDR8 (out), 43 PE0/AN0 (in), 44 PE4/AN4 (in), 45 PE1/AN1 (in), 46 PE5/AN5 (in), 47 PE2/AN2 (in), 48 PE6/AN6 (in), 49 PE3/AN3 (in), 50 PE7/AN7 (in), 51 VRL (in), 52 VRH (in)

## MC68HC811E2VP2
designator U?
8-Bit Microcontroller; Published: 17-Jan-2003; LatestRevisionDate: 06-Jun-2005; LatestRevisionNote: Stylized 3D Model Added.; DatasheetVersion: Rev 4, 7/2002; PackageReference: 767-02; Publisher: Altium Limited; PackageDescription: DIP; 48 Leads; Row Spacing 15.24 mm; Pitch 2.54 mm; ComponentLink1Description: Manufacturer Link; ComponentLink1URL: http://www.freescale.com/; ComponentLink2Description: Datasheet; ComponentLink2URL: http://www.freescale.com/files/microcontrollers/doc/data_sheet/M68HC11E.pdf
footprint 767-02 (DIP; 48 Leads; Row Spacing 15.24 mm; Pitch 2.54 mm)
3D model 767-02 (DIP; 48 Leads; Row Spacing 15.24 mm; Pitch 2.54 mm)
pins: 1 PA7/PAI/OC1 (io), 2 PA6/OC2/OC1 (out), 3 PA5/OC3/OC1 (out), 4 PA4/OC4/OC1 (out), 5 PA3/OC5/IC4/OC1 (out), 6 PA2/IC1 (in), 7 PA1/IC2 (in), 8 PA0/IC3 (in), 9 PB7/ADDR15 (out), 10 PB6/ADDR14 (out), 11 PB5/ADDR13 (out), 12 PB4/ADDR12 (out), 13 PB3/ADDR11 (out), 14 PB2/ADDR10 (out), 15 PB1/ADDR9 (out), 16 PB0/ADDR8 (out), 17 PE0/AN0 (in), 18 PE1/AN1 (in), 19 PE2/AN2 (in), 20 PE3/AN3 (in), 21 VRL (in), 22 VRH (in), 23 VSS (power), 24 MODB/VSTBY (in), 25 MODA/~{LIR} (io), 26 STRA/AS (io), 27 E, 28 STRB/R/~{W} (out), 29 EXTAL, 30 XTAL, 31 PC0/ADDR0/DATA0 (io), 32 PC1/ADDR1/DATA1 (io), 33 PC2/ADDR2/DATA2 (io), 34 PC3/ADDR3/DATA3 (io), 35 PC4/ADDR4/DATA4 (io), 36 PC5/ADDR5/DATA5 (io), 37 PC6/ADDR6/DATA6 (io), 38 PC7/ADDR7/DATA7 (io), 39 ~{RESET} (io), 40 ~{XIRQ} (in), 41 ~{IRQ} (in), 42 PD0/RXD (io), 43 PD1/TXD (io), 44 PD2/MISO (io), 45 PD3/MOSI (io), 46 PD4/SCK (io), 47 PD5/~{SS} (io), 48 VDD (power)